# Altium integrated library Actel ProASIC3.IntLib: 427 symbols (part 7 of 68)
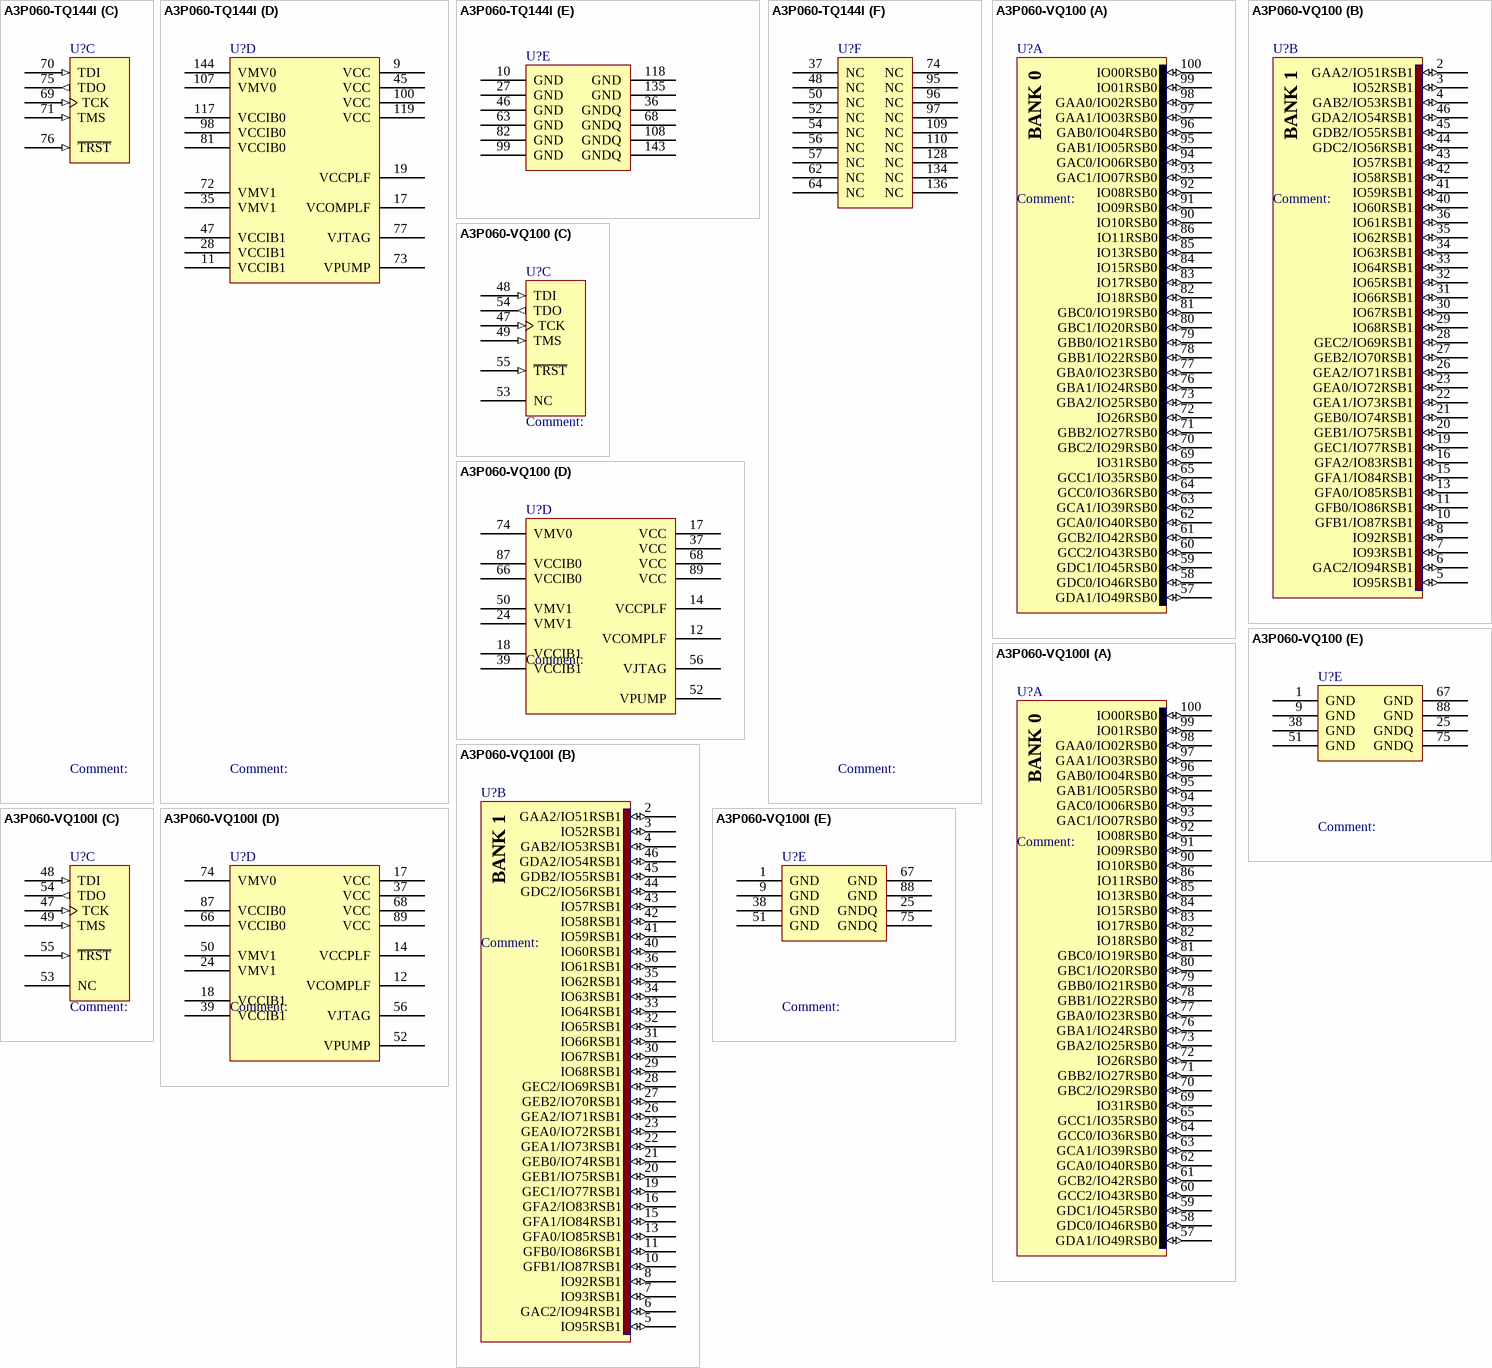
[diagram p304: symbols A3P060-TQ144I to A3P060-VQ100I]

## A3P060-TQ144I
designator U?
ProASIC3 Flash Family FPGA, 91 User IOs, 60K System Gates, 18 Kbits RAM, 1 Kbit Flash ROM, 1 PLL, 144-Pin TQFP, Industrial Grade; Published: 4-Mar-2005; LatestRevisionDate: 13-Apr-2006; LatestRevisionNote: IPC-7351 Footprint Added. Pinout changed to match DS ver 0.6.; DatasheetVersion: v1.1, Feb-2009; PackageVersion: v11.0, Feb-2009; PackageReference: TQ144; Publisher: Altium Limited; PackageDescription: 144-Pin Plastic Quad Flat Pack (TQ144); Code_JEDEC: MS-026-BFB; ComponentLink1Description: Manufacturer Link; ComponentLink1URL: http://www.actel.com/products/pa3/; ComponentLink2Description: Datasheet; ComponentLink2URL: http://www.actel.com/documents/PA3_DS.pdf; ComponentLink3Description: Packaging Specification; ComponentLink3URL: http://www.actel.com/documents/PckgMechDrwngs.pdf
footprint TQ144_N (Thin QFP, 144-Leads, Body 20x20mm, Pitch 0.5mm, IPC Medium Density)
footprint TQ144_L (Thin QFP, 144-Leads, Body 20x20mm, Pitch 0.5mm, IPC High Density)
footprint TQ144_M (Thin QFP, 144-Leads, Body 20x20mm, Pitch 0.5mm, IPC Low Density)
3D model A3P060-TQ144 (144-Pin Plastic Quad Flat Pack (TQ144))
signal-integrity model A3P060_TQ144 (ProASIC3)
part A pins: 78 GDA0/IO50RSB0 (io), 79 GDB0/IO48RSB0 (io), 80 GDB1/IO47RSB0 (io), 83 IO44RSB0 (io), 84 GCC2/IO43RSB0 (io), 85 GCB2/IO42RSB0 (io), 86 GCA2/IO41RSB0 (io), 87 GCA0/IO40RSB0 (io), 88 GCA1/IO39RSB0 (io), 89 GCB0/IO38RSB0 (io), 90 GCB1/IO37RSB0 (io), 91 GCC0/IO36RSB0 (io), 92 GCC1/IO35RSB0 (io), 93 IO34RSB0 (io), 94 IO33RSB0 (io), 101 IO30RSB0 (io), 102 GBC2/IO29RSB0 (io), 103 IO28RSB0 (io), 104 GBB2/IO27RSB0 (io), 105 IO26RSB0 (io), 106 GBA2/IO25RSB0 (io), 111 GBA1/IO24RSB0 (io), 112 GBA0/IO23RSB0 (io), 113 GBB1/IO22RSB0 (io), 114 GBB0/IO21RSB0 (io), 115 GBC1/IO20RSB0 (io), 116 GBC0/IO19RSB0 (io), 120 IO18RSB0 (io), 121 IO17RSB0 (io), 122 IO16RSB0 (io), 123 IO15RSB0 (io), 124 IO14RSB0 (io), 125 IO13RSB0 (io), 126 IO12RSB0 (io), 127 IO11RSB0 (io), 129 IO10RSB0 (io), 130 IO09RSB0 (io), 131 IO08RSB0 (io), 132 GAC1/IO07RSB0 (io), 133 GAC0/IO06RSB0 (io), 137 GAB1/IO05RSB0 (io), 138 GAB0/IO04RSB0 (io), 139 GAA1/IO03RSB0 (io), 140 GAA0/IO02RSB0 (io), 141 IO01RSB0 (io), 142 IO00RSB0 (io)
part B pins: 1 GAA2/IO51RSB1 (io), 2 IO52RSB1 (io), 3 GAB2/IO53RSB1 (io), 4 IO95RSB1 (io), 5 GAC2/IO94RSB1 (io), 6 IO93RSB1 (io), 7 IO92RSB1 (io), 8 IO91RSB1 (io), 12 IO90RSB1 (io), 13 GFC1/IO89RSB1 (io), 14 GFC0/IO88RSB1 (io), 15 GFB1/IO87RSB1 (io), 16 GFB0/IO86RSB1 (io), 18 GFA0/IO85RSB1 (io), 20 GFA1/IO84RSB1 (io), 21 GFA2/IO83RSB1 (io), 22 GFB2/IO82RSB1 (io), 23 GFC2/IO81RSB1 (io), 24 IO80RSB1 (io), 25 IO79RSB1 (io), 26 IO78RSB1 (io), 29 GEC1/IO77RSB1 (io), 30 GEC0/IO76RSB1 (io), 31 GEB1/IO75RSB1 (io), 32 GEB0/IO74RSB1 (io), 33 GEA1/IO73RSB1 (io), 34 GEA0/IO72RSB1 (io), 38 GEA2/IO71RSB1 (io), 39 GEB2/IO70RSB1 (io), 40 GEC2/IO69RSB1 (io), 41 IO68RSB1 (io), 42 IO67RSB1 (io), 43 IO66RSB1 (io), 44 IO65RSB1 (io), 49 IO64RSB1 (io), 51 IO63RSB1 (io), 53 IO62RSB1 (io), 55 IO61RSB1 (io), 58 IO60RSB1 (io), 59 IO59RSB1 (io), 60 IO58RSB1 (io), 61 IO57RSB1 (io), 65 GDC2/IO56RSB1 (io), 66 GDB2/IO55RSB1 (io), 67 GDA2/IO54RSB1 (io)
part C pins: 69 TCK (in), 70 TDI (in), 71 TMS (in), 75 TDO (out), 76 ~{TRST} (in)
part D pins: 9 VCC (power), 11 VCCIB1 (power), 17 VCOMPLF (power), 19 VCCPLF (power), 28 VCCIB1 (power), 35 VMV1 (power), 45 VCC (power), 47 VCCIB1 (power), 72 VMV1 (power), 73 VPUMP (power), 77 VJTAG (power), 81 VCCIB0 (power), 98 VCCIB0 (power), 100 VCC (power), 107 VMV0 (power), 117 VCCIB0 (power), 119 VCC (power), 144 VMV0 (power)
part E pins: 10 GND (power), 27 GND (power), 36 GNDQ (power), 46 GND (power), 63 GND (power), 68 GNDQ (power), 82 GND (power), 99 GND (power), 108 GNDQ (power), 118 GND (power), 135 GND (power), 143 GNDQ (power)
part F pins: 37 NC, 48 NC, 50 NC, 52 NC, 54 NC, 56 NC, 57 NC, 62 NC, 64 NC, 74 NC, 95 NC, 96 NC, 97 NC, 109 NC, 110 NC, 128 NC, 134 NC, 136 NC
part A text: BANK 0
part B text: BANK 1

## A3P060-VQ100
designator U?
ProASIC3 Flash Family FPGA, 71 User IOs, 60K System Gates, 18 Kbits RAM, 1 Kbit Flash ROM, 1 PLL, 100-Pin VQFP, Commercial Grade; Published: 4-Mar-2005; LatestRevisionDate: 13-Apr-2006; LatestRevisionNote: IPC-7351 Footprint Added. Pinout changed to match DS ver 0.6.; DatasheetVersion: v1.1, Feb-2009; PackageVersion: v11.0, Feb-2009; PackageReference: VQ100; Publisher: Altium Limited; PackageDescription: 100-Pin Plastic Quad Flat Pack (VQ100); Code_JEDEC: MS-026-AED; ComponentLink1Description: Manufacturer Link; ComponentLink1URL: http://www.actel.com/products/pa3/; ComponentLink2Description: Datasheet; ComponentLink2URL: http://www.actel.com/documents/PA3_DS.pdf; ComponentLink3Description: Packaging Specification; ComponentLink3URL: http://www.actel.com/documents/PckgMechDrwngs.pdf
footprint VQ100_N (Thin QFP, 100-Leads, Body 14x14mm, Pitch 0.5mm, IPC Medium Density)
footprint VQ100_L (Thin QFP, 100-Leads, Body 14x14mm, Pitch 0.5mm, IPC High Density)
footprint VQ100_M (Thin QFP, 100-Leads, Body 14x14mm, Pitch 0.5mm, IPC Low Density)
3D model A3P060-VQ100 (100-Pin Plastic Quad Flat Pack (VQ100))
signal-integrity model A3P060_VQ100 (ProASIC3)
part A pins: 57 GDA1/IO49RSB0 (io), 58 GDC0/IO46RSB0 (io), 59 GDC1/IO45RSB0 (io), 60 GCC2/IO43RSB0 (io), 61 GCB2/IO42RSB0 (io), 62 GCA0/IO40RSB0 (io), 63 GCA1/IO39RSB0 (io), 64 GCC0/IO36RSB0 (io), 65 GCC1/IO35RSB0 (io), 69 IO31RSB0 (io), 70 GBC2/IO29RSB0 (io), 71 GBB2/IO27RSB0 (io), 72 IO26RSB0 (io), 73 GBA2/IO25RSB0 (io), 76 GBA1/IO24RSB0 (io), 77 GBA0/IO23RSB0 (io), 78 GBB1/IO22RSB0 (io), 79 GBB0/IO21RSB0 (io), 80 GBC1/IO20RSB0 (io), 81 GBC0/IO19RSB0 (io), 82 IO18RSB0 (io), 83 IO17RSB0 (io), 84 IO15RSB0 (io), 85 IO13RSB0 (io), 86 IO11RSB0 (io), 90 IO10RSB0 (io), 91 IO09RSB0 (io), 92 IO08RSB0 (io), 93 GAC1/IO07RSB0 (io), 94 GAC0/IO06RSB0 (io), 95 GAB1/IO05RSB0 (io), 96 GAB0/IO04RSB0 (io), 97 GAA1/IO03RSB0 (io), 98 GAA0/IO02RSB0 (io), 99 IO01RSB0 (io), 100 IO00RSB0 (io)
part B pins: 2 GAA2/IO51RSB1 (io), 3 IO52RSB1 (io), 4 GAB2/IO53RSB1 (io), 5 IO95RSB1 (io), 6 GAC2/IO94RSB1 (io), 7 IO93RSB1 (io), 8 IO92RSB1 (io), 10 GFB1/IO87RSB1 (io), 11 GFB0/IO86RSB1 (io), 13 GFA0/IO85RSB1 (io), 15 GFA1/IO84RSB1 (io), 16 GFA2/IO83RSB1 (io), 19 GEC1/IO77RSB1 (io), 20 GEB1/IO75RSB1 (io), 21 GEB0/IO74RSB1 (io), 22 GEA1/IO73RSB1 (io), 23 GEA0/IO72RSB1 (io), 26 GEA2/IO71RSB1 (io), 27 GEB2/IO70RSB1 (io), 28 GEC2/IO69RSB1 (io), 29 IO68RSB1 (io), 30 IO67RSB1 (io), 31 IO66RSB1 (io), 32 IO65RSB1 (io), 33 IO64RSB1 (io), 34 IO63RSB1 (io), 35 IO62RSB1 (io), 36 IO61RSB1 (io), 40 IO60RSB1 (io), 41 IO59RSB1 (io), 42 IO58RSB1 (io), 43 IO57RSB1 (io), 44 GDC2/IO56RSB1 (io), 45 GDB2/IO55RSB1 (io), 46 GDA2/IO54RSB1 (io)
part C pins: 47 TCK (in), 48 TDI (in), 49 TMS (in), 53 NC, 54 TDO (out), 55 ~{TRST} (in)
part D pins: 12 VCOMPLF (power), 14 VCCPLF (power), 17 VCC (power), 18 VCCIB1 (power), 24 VMV1 (power), 37 VCC (power), 39 VCCIB1 (power), 50 VMV1, 52 VPUMP (power), 56 VJTAG (power), 66 VCCIB0 (power), 68 VCC (power), 74 VMV0 (power), 87 VCCIB0 (power), 89 VCC (power)
part E pins: 1 GND (power), 9 GND (power), 25 GNDQ (power), 38 GND (power), 51 GND (power), 67 GND (power), 75 GNDQ (power), 88 GND (power)
part A text: BANK 0
part B text: BANK 1

## A3P060-VQ100I
designator U?
ProASIC3 Flash Family FPGA, 71 User IOs, 60K System Gates, 18 Kbits RAM, 1 Kbit Flash ROM, 1 PLL, 100-Pin VQFP, Industrial Grade; Published: 4-Mar-2005; LatestRevisionDate: 13-Apr-2006; LatestRevisionNote: IPC-7351 Footprint Added. Pinout changed to match DS ver 0.6.; DatasheetVersion: v1.1, Feb-2009; PackageVersion: v11.0, Feb-2009; PackageReference: VQ100; Publisher: Altium Limited; PackageDescription: 100-Pin Plastic Quad Flat Pack (VQ100); Code_JEDEC: MS-026-AED; ComponentLink1Description: Manufacturer Link; ComponentLink1URL: http://www.actel.com/products/pa3/; ComponentLink2Description: Datasheet; ComponentLink2URL: http://www.actel.com/documents/PA3_DS.pdf; ComponentLink3Description: Packaging Specification; ComponentLink3URL: http://www.actel.com/documents/PckgMechDrwngs.pdf
footprint VQ100_N (Thin QFP, 100-Leads, Body 14x14mm, Pitch 0.5mm, IPC Medium Density)
footprint VQ100_L (Thin QFP, 100-Leads, Body 14x14mm, Pitch 0.5mm, IPC High Density)
footprint VQ100_M (Thin QFP, 100-Leads, Body 14x14mm, Pitch 0.5mm, IPC Low Density)
3D model A3P060-VQ100 (100-Pin Plastic Quad Flat Pack (VQ100))
signal-integrity model A3P060_VQ100 (ProASIC3)
part A pins: 57 GDA1/IO49RSB0 (io), 58 GDC0/IO46RSB0 (io), 59 GDC1/IO45RSB0 (io), 60 GCC2/IO43RSB0 (io), 61 GCB2/IO42RSB0 (io), 62 GCA0/IO40RSB0 (io), 63 GCA1/IO39RSB0 (io), 64 GCC0/IO36RSB0 (io), 65 GCC1/IO35RSB0 (io), 69 IO31RSB0 (io), 70 GBC2/IO29RSB0 (io), 71 GBB2/IO27RSB0 (io), 72 IO26RSB0 (io), 73 GBA2/IO25RSB0 (io), 76 GBA1/IO24RSB0 (io), 77 GBA0/IO23RSB0 (io), 78 GBB1/IO22RSB0 (io), 79 GBB0/IO21RSB0 (io), 80 GBC1/IO20RSB0 (io), 81 GBC0/IO19RSB0 (io), 82 IO18RSB0 (io), 83 IO17RSB0 (io), 84 IO15RSB0 (io), 85 IO13RSB0 (io), 86 IO11RSB0 (io), 90 IO10RSB0 (io), 91 IO09RSB0 (io), 92 IO08RSB0 (io), 93 GAC1/IO07RSB0 (io), 94 GAC0/IO06RSB0 (io), 95 GAB1/IO05RSB0 (io), 96 GAB0/IO04RSB0 (io), 97 GAA1/IO03RSB0 (io), 98 GAA0/IO02RSB0 (io), 99 IO01RSB0 (io), 100 IO00RSB0 (io)
part B pins: 2 GAA2/IO51RSB1 (io), 3 IO52RSB1 (io), 4 GAB2/IO53RSB1 (io), 5 IO95RSB1 (io), 6 GAC2/IO94RSB1 (io), 7 IO93RSB1 (io), 8 IO92RSB1 (io), 10 GFB1/IO87RSB1 (io), 11 GFB0/IO86RSB1 (io), 13 GFA0/IO85RSB1 (io), 15 GFA1/IO84RSB1 (io), 16 GFA2/IO83RSB1 (io), 19 GEC1/IO77RSB1 (io), 20 GEB1/IO75RSB1 (io), 21 GEB0/IO74RSB1 (io), 22 GEA1/IO73RSB1 (io), 23 GEA0/IO72RSB1 (io), 26 GEA2/IO71RSB1 (io), 27 GEB2/IO70RSB1 (io), 28 GEC2/IO69RSB1 (io), 29 IO68RSB1 (io), 30 IO67RSB1 (io), 31 IO66RSB1 (io), 32 IO65RSB1 (io), 33 IO64RSB1 (io), 34 IO63RSB1 (io), 35 IO62RSB1 (io), 36 IO61RSB1 (io), 40 IO60RSB1 (io), 41 IO59RSB1 (io), 42 IO58RSB1 (io), 43 IO57RSB1 (io), 44 GDC2/IO56RSB1 (io), 45 GDB2/IO55RSB1 (io), 46 GDA2/IO54RSB1 (io)
part C pins: 47 TCK (in), 48 TDI (in), 49 TMS (in), 53 NC, 54 TDO (out), 55 ~{TRST} (in)
part D pins: 12 VCOMPLF (power), 14 VCCPLF (power), 17 VCC (power), 18 VCCIB1 (power), 24 VMV1 (power), 37 VCC (power), 39 VCCIB1 (power), 50 VMV1, 52 VPUMP (power), 56 VJTAG (power), 66 VCCIB0 (power), 68 VCC (power), 74 VMV0 (power), 87 VCCIB0 (power), 89 VCC (power)
part E pins: 1 GND (power), 9 GND (power), 25 GNDQ (power), 38 GND (power), 51 GND (power), 67 GND (power), 75 GNDQ (power), 88 GND (power)
part A text: BANK 0
part B text: BANK 1

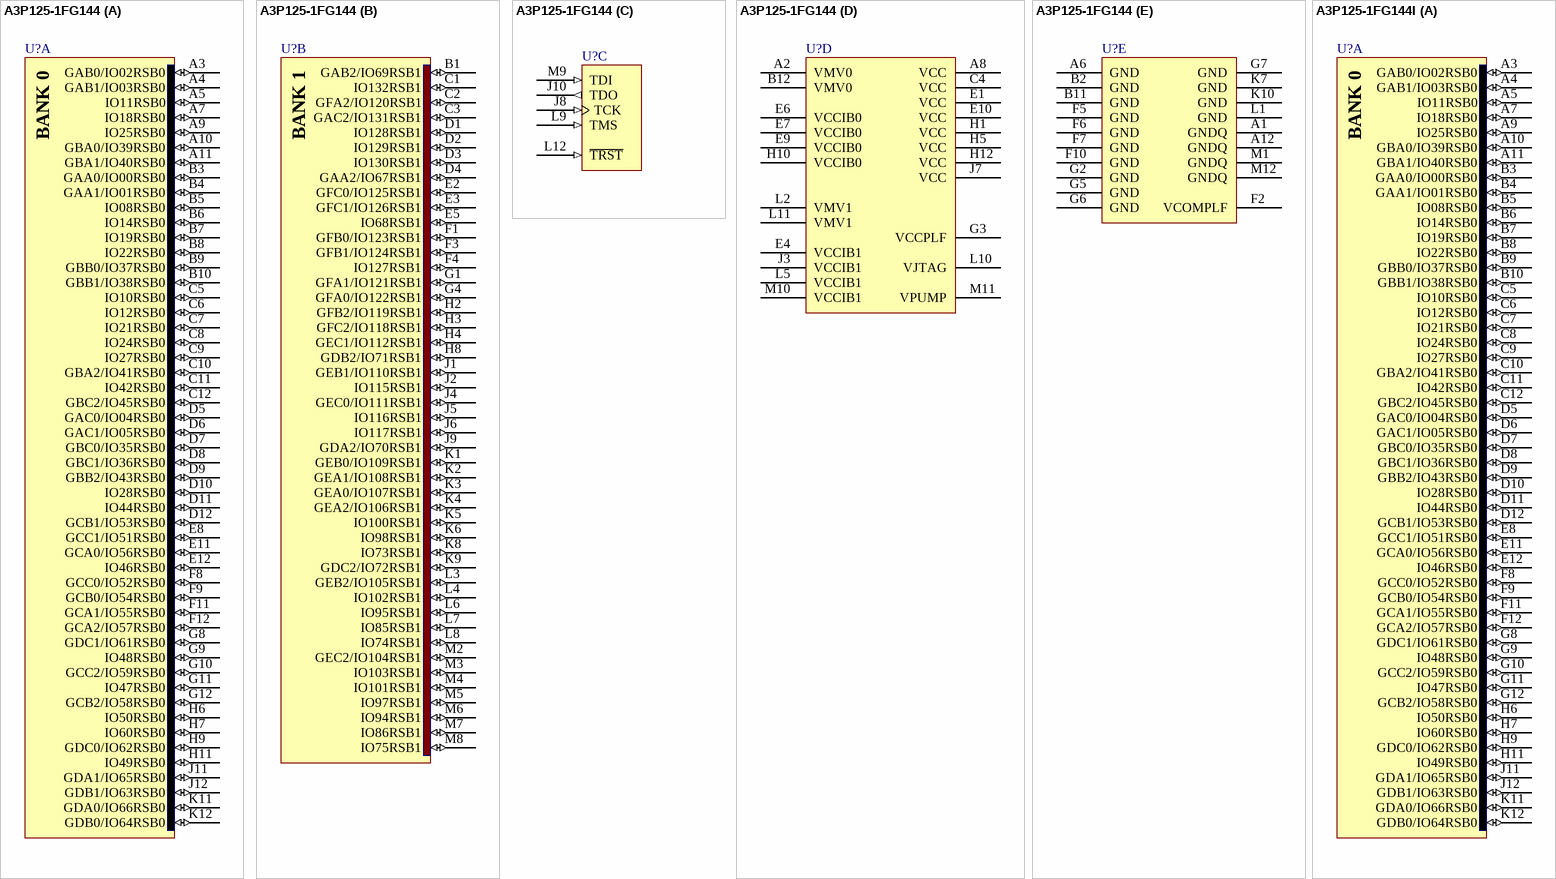
[diagram p28: symbols A3P125-1FG144 to A3P125-1FG144I]

## A3P125-1FG144
designator U?
ProASIC3 Flash Family FPGA, 97 User IOs, 125K System Gates, 36 Kbits RAM, 1 Kbit Flash ROM, 1 PLL, 144-Ball FBGA, Commercial Grade; Published: 13-Apr-2006; DatasheetVersion: v1.1, Feb-2009; PackageVersion: v11.0, Feb-2009; PackageReference: FG144; Publisher: Altium Limited; PackageDescription: 144-Ball Fine Pitch Plastic Ball Grid Array (FG144); Code_JEDEC: MO-192-DAD-1; ComponentLink1Description: Manufacturer Link; ComponentLink1URL: http://www.actel.com/products/pa3/; ComponentLink2Description: Datasheet; ComponentLink2URL: http://www.actel.com/documents/PA3_DS.pdf; ComponentLink3Description: Packaging Specification; ComponentLink3URL: http://www.actel.com/documents/PckgMechDrwngs.pdf
footprint FG144 (BGA, 144-Leads, Body 13x13mm, Pitch 1mm)
3D model A3P125-FG144 (144-Ball Fine Pitch Plastic Ball Grid Array (FG144))
signal-integrity model A3P125_FG144 (ProASIC3)
part A pins: A3 GAB0/IO02RSB0 (io), A4 GAB1/IO03RSB0 (io), A5 IO11RSB0 (io), A7 IO18RSB0 (io), A9 IO25RSB0 (io), A10 GBA0/IO39RSB0 (io), A11 GBA1/IO40RSB0 (io), B3 GAA0/IO00RSB0 (io), B4 GAA1/IO01RSB0 (io), B5 IO08RSB0 (io), B6 IO14RSB0 (io), B7 IO19RSB0 (io), B8 IO22RSB0 (io), B9 GBB0/IO37RSB0 (io), B10 GBB1/IO38RSB0 (io), C5 IO10RSB0 (io), C6 IO12RSB0 (io), C7 IO21RSB0 (io), C8 IO24RSB0 (io), C9 IO27RSB0 (io), C10 GBA2/IO41RSB0 (io), C11 IO42RSB0 (io), C12 GBC2/IO45RSB0 (io), D5 GAC0/IO04RSB0 (io), D6 GAC1/IO05RSB0 (io), D7 GBC0/IO35RSB0 (io), D8 GBC1/IO36RSB0 (io), D9 GBB2/IO43RSB0 (io), D10 IO28RSB0 (io), D11 IO44RSB0 (io), D12 GCB1/IO53RSB0 (io), E8 GCC1/IO51RSB0 (io), E11 GCA0/IO56RSB0 (io), E12 IO46RSB0 (io), F8 GCC0/IO52RSB0 (io), F9 GCB0/IO54RSB0 (io), F11 GCA1/IO55RSB0 (io), F12 GCA2/IO57RSB0 (io), G8 GDC1/IO61RSB0 (io), G9 IO48RSB0 (io), G10 GCC2/IO59RSB0 (io), G11 IO47RSB0 (io), G12 GCB2/IO58RSB0 (io), H6 IO50RSB0 (io), H7 IO60RSB0 (io), H9 GDC0/IO62RSB0 (io), H11 IO49RSB0 (io), J11 GDA1/IO65RSB0 (io), J12 GDB1/IO63RSB0 (io), K11 GDA0/IO66RSB0 (io), K12 GDB0/IO64RSB0 (io)
part B pins: B1 GAB2/IO69RSB1 (io), C1 IO132RSB1 (io), C2 GFA2/IO120RSB1 (io), C3 GAC2/IO131RSB1 (io), D1 IO128RSB1 (io), D2 IO129RSB1 (io), D3 IO130RSB1 (io), D4 GAA2/IO67RSB1 (io), E2 GFC0/IO125RSB1 (io), E3 GFC1/IO126RSB1 (io), E5 IO68RSB1 (io), F1 GFB0/IO123RSB1 (io), F3 GFB1/IO124RSB1 (io), F4 IO127RSB1 (io), G1 GFA1/IO121RSB1 (io), G4 GFA0/IO122RSB1 (io), H2 GFB2/IO119RSB1 (io), H3 GFC2/IO118RSB1 (io), H4 GEC1/IO112RSB1 (io), H8 GDB2/IO71RSB1 (io), J1 GEB1/IO110RSB1 (io), J2 IO115RSB1 (io), J4 GEC0/IO111RSB1 (io), J5 IO116RSB1 (io), J6 IO117RSB1 (io), J9 GDA2/IO70RSB1 (io), K1 GEB0/IO109RSB1 (io), K2 GEA1/IO108RSB1 (io), K3 GEA0/IO107RSB1 (io), K4 GEA2/IO106RSB1 (io), K5 IO100RSB1 (io), K6 IO98RSB1 (io), K8 IO73RSB1 (io), K9 GDC2/IO72RSB1 (io), L3 GEB2/IO105RSB1 (io), L4 IO102RSB1 (io), L6 IO95RSB1 (io), L7 IO85RSB1 (io), L8 IO74RSB1 (io), M2 GEC2/IO104RSB1 (io), M3 IO103RSB1 (io), M4 IO101RSB1 (io), M5 IO97RSB1 (io), M6 IO94RSB1 (io), M7 IO86RSB1 (io), M8 IO75RSB1 (io)
part C pins: J8 TCK (in), J10 TDO (out), L9 TMS (in), L12 ~{TRST} (in), M9 TDI (in)
part D pins: A2 VMV0 (power), A8 VCC (power), B12 VMV0 (power), C4 VCC (power), E1 VCC (power), E4 VCCIB1 (power), E6 VCCIB0 (power), E7 VCCIB0 (power), E9 VCCIB0 (power), E10 VCC (power), G3 VCCPLF (power), H1 VCC (power), H5 VCC (power), H10 VCCIB0 (power), H12 VCC (power), J3 VCCIB1 (power), J7 VCC (power), L2 VMV1 (power), L5 VCCIB1 (power), L10 VJTAG (power), L11 VMV1 (power), M10 VCCIB1 (power), M11 VPUMP (power)
part E pins: A1 GNDQ (power), A6 GND (power), A12 GNDQ (power), B2 GND (power), B11 GND (power), F2 VCOMPLF (power), F5 GND (power), F6 GND (power), F7 GND (power), F10 GND (power), G2 GND (power), G5 GND (power), G6 GND (power), G7 GND (power), K7 GND (power), K10 GND (power), L1 GND (power), M1 GNDQ (power), M12 GNDQ (power)
part A text: BANK 0
part B text: BANK 1

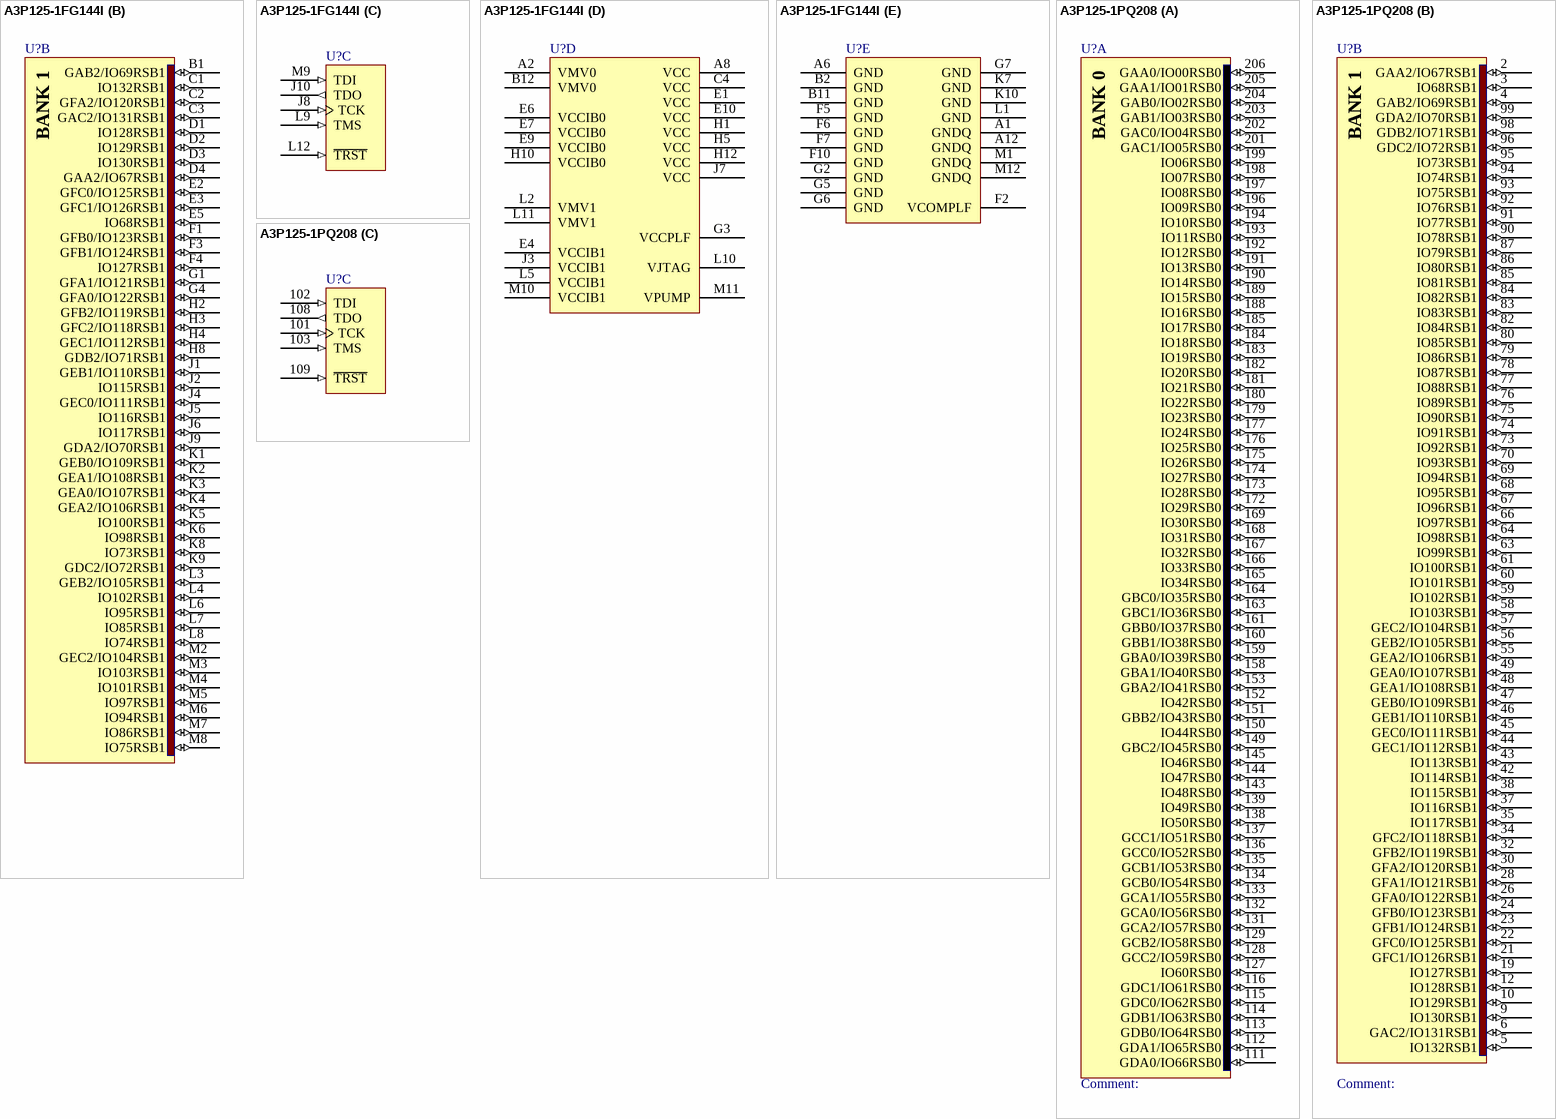
[diagram p29: symbols A3P125-1FG144I to A3P125-1PQ208]

## A3P125-1FG144I
designator U?
ProASIC3 Flash Family FPGA, 97 User IOs, 125K System Gates, 36 Kbits RAM, 1 Kbit Flash ROM, 1 PLL, 144-Ball FBGA, Industrial Grade; Published: 13-Apr-2006; DatasheetVersion: v1.1, Feb-2009; PackageVersion: v11.0, Feb-2009; PackageReference: FG144; Publisher: Altium Limited; PackageDescription: 144-Ball Fine Pitch Plastic Ball Grid Array (FG144); Code_JEDEC: MO-192-DAD-1; ComponentLink1Description: Manufacturer Link; ComponentLink1URL: http://www.actel.com/products/pa3/; ComponentLink2Description: Datasheet; ComponentLink2URL: http://www.actel.com/documents/PA3_DS.pdf; ComponentLink3Description: Packaging Specification; ComponentLink3URL: http://www.actel.com/documents/PckgMechDrwngs.pdf
footprint FG144 (BGA, 144-Leads, Body 13x13mm, Pitch 1mm)
3D model A3P125-FG144 (144-Ball Fine Pitch Plastic Ball Grid Array (FG144))
signal-integrity model A3P125_FG144 (ProASIC3)
part A pins: A3 GAB0/IO02RSB0 (io), A4 GAB1/IO03RSB0 (io), A5 IO11RSB0 (io), A7 IO18RSB0 (io), A9 IO25RSB0 (io), A10 GBA0/IO39RSB0 (io), A11 GBA1/IO40RSB0 (io), B3 GAA0/IO00RSB0 (io), B4 GAA1/IO01RSB0 (io), B5 IO08RSB0 (io), B6 IO14RSB0 (io), B7 IO19RSB0 (io), B8 IO22RSB0 (io), B9 GBB0/IO37RSB0 (io), B10 GBB1/IO38RSB0 (io), C5 IO10RSB0 (io), C6 IO12RSB0 (io), C7 IO21RSB0 (io), C8 IO24RSB0 (io), C9 IO27RSB0 (io), C10 GBA2/IO41RSB0 (io), C11 IO42RSB0 (io), C12 GBC2/IO45RSB0 (io), D5 GAC0/IO04RSB0 (io), D6 GAC1/IO05RSB0 (io), D7 GBC0/IO35RSB0 (io), D8 GBC1/IO36RSB0 (io), D9 GBB2/IO43RSB0 (io), D10 IO28RSB0 (io), D11 IO44RSB0 (io), D12 GCB1/IO53RSB0 (io), E8 GCC1/IO51RSB0 (io), E11 GCA0/IO56RSB0 (io), E12 IO46RSB0 (io), F8 GCC0/IO52RSB0 (io), F9 GCB0/IO54RSB0 (io), F11 GCA1/IO55RSB0 (io), F12 GCA2/IO57RSB0 (io), G8 GDC1/IO61RSB0 (io), G9 IO48RSB0 (io), G10 GCC2/IO59RSB0 (io), G11 IO47RSB0 (io), G12 GCB2/IO58RSB0 (io), H6 IO50RSB0 (io), H7 IO60RSB0 (io), H9 GDC0/IO62RSB0 (io), H11 IO49RSB0 (io), J11 GDA1/IO65RSB0 (io), J12 GDB1/IO63RSB0 (io), K11 GDA0/IO66RSB0 (io), K12 GDB0/IO64RSB0 (io)
part B pins: B1 GAB2/IO69RSB1 (io), C1 IO132RSB1 (io), C2 GFA2/IO120RSB1 (io), C3 GAC2/IO131RSB1 (io), D1 IO128RSB1 (io), D2 IO129RSB1 (io), D3 IO130RSB1 (io), D4 GAA2/IO67RSB1 (io), E2 GFC0/IO125RSB1 (io), E3 GFC1/IO126RSB1 (io), E5 IO68RSB1 (io), F1 GFB0/IO123RSB1 (io), F3 GFB1/IO124RSB1 (io), F4 IO127RSB1 (io), G1 GFA1/IO121RSB1 (io), G4 GFA0/IO122RSB1 (io), H2 GFB2/IO119RSB1 (io), H3 GFC2/IO118RSB1 (io), H4 GEC1/IO112RSB1 (io), H8 GDB2/IO71RSB1 (io), J1 GEB1/IO110RSB1 (io), J2 IO115RSB1 (io), J4 GEC0/IO111RSB1 (io), J5 IO116RSB1 (io), J6 IO117RSB1 (io), J9 GDA2/IO70RSB1 (io), K1 GEB0/IO109RSB1 (io), K2 GEA1/IO108RSB1 (io), K3 GEA0/IO107RSB1 (io), K4 GEA2/IO106RSB1 (io), K5 IO100RSB1 (io), K6 IO98RSB1 (io), K8 IO73RSB1 (io), K9 GDC2/IO72RSB1 (io), L3 GEB2/IO105RSB1 (io), L4 IO102RSB1 (io), L6 IO95RSB1 (io), L7 IO85RSB1 (io), L8 IO74RSB1 (io), M2 GEC2/IO104RSB1 (io), M3 IO103RSB1 (io), M4 IO101RSB1 (io), M5 IO97RSB1 (io), M6 IO94RSB1 (io), M7 IO86RSB1 (io), M8 IO75RSB1 (io)
part C pins: J8 TCK (in), J10 TDO (out), L9 TMS (in), L12 ~{TRST} (in), M9 TDI (in)
part D pins: A2 VMV0 (power), A8 VCC (power), B12 VMV0 (power), C4 VCC (power), E1 VCC (power), E4 VCCIB1 (power), E6 VCCIB0 (power), E7 VCCIB0 (power), E9 VCCIB0 (power), E10 VCC (power), G3 VCCPLF (power), H1 VCC (power), H5 VCC (power), H10 VCCIB0 (power), H12 VCC (power), J3 VCCIB1 (power), J7 VCC (power), L2 VMV1 (power), L5 VCCIB1 (power), L10 VJTAG (power), L11 VMV1 (power), M10 VCCIB1 (power), M11 VPUMP (power)
part E pins: A1 GNDQ (power), A6 GND (power), A12 GNDQ (power), B2 GND (power), B11 GND (power), F2 VCOMPLF (power), F5 GND (power), F6 GND (power), F7 GND (power), F10 GND (power), G2 GND (power), G5 GND (power), G6 GND (power), G7 GND (power), K7 GND (power), K10 GND (power), L1 GND (power), M1 GNDQ (power), M12 GNDQ (power)
part A text: BANK 0
part B text: BANK 1

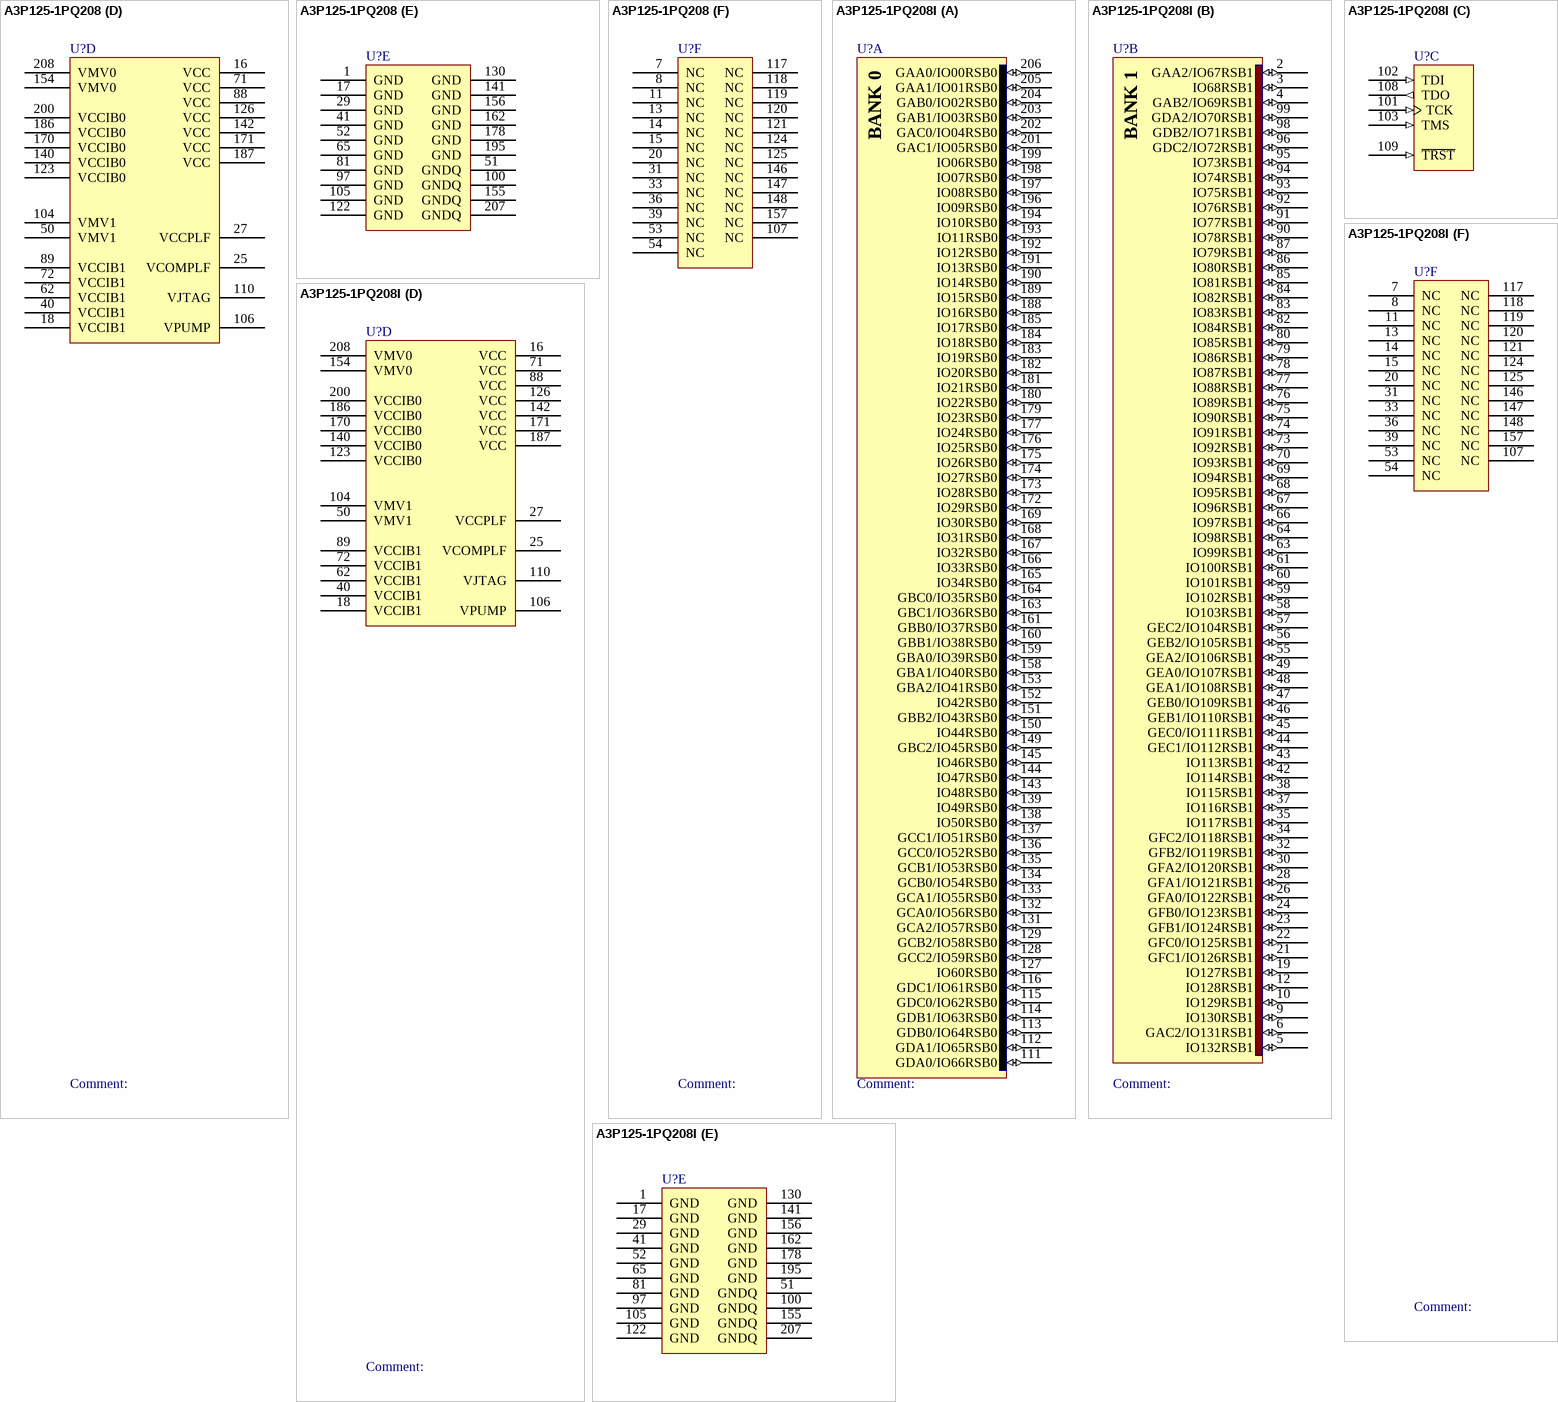
[diagram p30: symbols A3P125-1PQ208 to A3P125-1PQ208I]

## A3P125-1PQ208
designator U?
ProASIC3 Flash Family FPGA, 133 User IOs, 125K System Gates, 36 Kbits RAM, 1 Kbit Flash ROM, 1 PLL, 208-Pin PQFP, Commercial Grade; Published: 4-Mar-2005; LatestRevisionDate: 13-Apr-2006; LatestRevisionNote: IPC-7351 Footprint Added.; DatasheetVersion: v1.1, Feb-2009; PackageVersion: v11.0, Feb-2009; PackageReference: PQ208; Publisher: Altium Limited; PackageDescription: 208-Pin Plastic Quad Flat Pack (PQ208); Code_JEDEC: MS-029-FA-1; ComponentLink1Description: Manufacturer Link; ComponentLink1URL: http://www.actel.com/products/pa3/; ComponentLink2Description: Datasheet; ComponentLink2URL: http://www.actel.com/documents/PA3_DS.pdf; ComponentLink3Description: Packaging Specification; ComponentLink3URL: http://www.actel.com/documents/PckgMechDrwngs.pdf
footprint PQ208_N (Shrink QFP, 208-Leads, Body 28x28mm, Pitch 0.5mm, IPC Medium Density)
footprint PQ208_L (Shrink QFP, 208-Leads, Body 28x28mm, Pitch 0.5mm, IPC High Density)
footprint PQ208_M (Shrink QFP, 208-Leads, Body 28x28mm, Pitch 0.5mm, IPC Low Density)
3D model A3P125-PQ208 (208-Pin Plastic Quad Flat Pack (PQ208))
signal-integrity model A3P125_PQ208 (ProASIC3)
part A pins: 111 GDA0/IO66RSB0 (io), 112 GDA1/IO65RSB0 (io), 113 GDB0/IO64RSB0 (io), 114 GDB1/IO63RSB0 (io), 115 GDC0/IO62RSB0 (io), 116 GDC1/IO61RSB0 (io), 127 IO60RSB0 (io), 128 GCC2/IO59RSB0 (io), 129 GCB2/IO58RSB0 (io), 131 GCA2/IO57RSB0 (io), 132 GCA0/IO56RSB0 (io), 133 GCA1/IO55RSB0 (io), 134 GCB0/IO54RSB0 (io), 135 GCB1/IO53RSB0 (io), 136 GCC0/IO52RSB0 (io), 137 GCC1/IO51RSB0 (io), 138 IO50RSB0 (io), 139 IO49RSB0 (io), 143 IO48RSB0 (io), 144 IO47RSB0 (io), 145 IO46RSB0 (io), 149 GBC2/IO45RSB0 (io), 150 IO44RSB0 (io), 151 GBB2/IO43RSB0 (io), 152 IO42RSB0 (io), 153 GBA2/IO41RSB0 (io), 158 GBA1/IO40RSB0 (io), 159 GBA0/IO39RSB0 (io), 160 GBB1/IO38RSB0 (io), 161 GBB0/IO37RSB0 (io), 163 GBC1/IO36RSB0 (io), 164 GBC0/IO35RSB0 (io), 165 IO34RSB0 (io), 166 IO33RSB0 (io), 167 IO32RSB0 (io), 168 IO31RSB0 (io), 169 IO30RSB0 (io), 172 IO29RSB0 (io), 173 IO28RSB0 (io), 174 IO27RSB0 (io), 175 IO26RSB0 (io), 176 IO25RSB0 (io), 177 IO24RSB0 (io), 179 IO23RSB0 (io), 180 IO22RSB0 (io), 181 IO21RSB0 (io), 182 IO20RSB0 (io), 183 IO19RSB0 (io), 184 IO18RSB0 (io), 185 IO17RSB0 (io), 188 IO16RSB0 (io), 189 IO15RSB0 (io), 190 IO14RSB0 (io), 191 IO13RSB0 (io), 192 IO12RSB0 (io), 193 IO11RSB0 (io), 194 IO10RSB0 (io), 196 IO09RSB0 (io), 197 IO08RSB0 (io), 198 IO07RSB0 (io), 199 IO06RSB0 (io), 201 GAC1/IO05RSB0 (io), 202 GAC0/IO04RSB0 (io), 203 GAB1/IO03RSB0 (io), 204 GAB0/IO02RSB0 (io), 205 GAA1/IO01RSB0 (io), 206 GAA0/IO00RSB0 (io)
part B pins: 2 GAA2/IO67RSB1 (io), 3 IO68RSB1 (io), 4 GAB2/IO69RSB1 (io), 5 IO132RSB1 (io), 6 GAC2/IO131RSB1 (io), 9 IO130RSB1 (io), 10 IO129RSB1 (io), 12 IO128RSB1 (io), 19 IO127RSB1 (io), 21 GFC1/IO126RSB1 (io), 22 GFC0/IO125RSB1 (io), 23 GFB1/IO124RSB1 (io), 24 GFB0/IO123RSB1 (io), 26 GFA0/IO122RSB1 (io), 28 GFA1/IO121RSB1 (io), 30 GFA2/IO120RSB1 (io), 32 GFB2/IO119RSB1 (io), 34 GFC2/IO118RSB1 (io), 35 IO117RSB1 (io), 37 IO116RSB1 (io), 38 IO115RSB1 (io), 42 IO114RSB1 (io), 43 IO113RSB1 (io), 44 GEC1/IO112RSB1 (io), 45 GEC0/IO111RSB1 (io), 46 GEB1/IO110RSB1 (io), 47 GEB0/IO109RSB1 (io), 48 GEA1/IO108RSB1 (io), 49 GEA0/IO107RSB1 (io), 55 GEA2/IO106RSB1 (io), 56 GEB2/IO105RSB1 (io), 57 GEC2/IO104RSB1 (io), 58 IO103RSB1 (io), 59 IO102RSB1 (io), 60 IO101RSB1 (io), 61 IO100RSB1 (io), 63 IO99RSB1 (io), 64 IO98RSB1 (io), 66 IO97RSB1 (io), 67 IO96RSB1 (io), 68 IO95RSB1 (io), 69 IO94RSB1 (io), 70 IO93RSB1 (io), 73 IO92RSB1 (io), 74 IO91RSB1 (io), 75 IO90RSB1 (io), 76 IO89RSB1 (io), 77 IO88RSB1 (io), 78 IO87RSB1 (io), 79 IO86RSB1 (io), 80 IO85RSB1 (io), 82 IO84RSB1 (io), 83 IO83RSB1 (io), 84 IO82RSB1 (io), 85 IO81RSB1 (io), 86 IO80RSB1 (io), 87 IO79RSB1 (io), 90 IO78RSB1 (io), 91 IO77RSB1 (io), 92 IO76RSB1 (io), 93 IO75RSB1 (io), 94 IO74RSB1 (io), 95 IO73RSB1 (io), 96 GDC2/IO72RSB1 (io), 98 GDB2/IO71RSB1 (io), 99 GDA2/IO70RSB1 (io)
part C pins: 101 TCK (in), 102 TDI (in), 103 TMS (in), 108 TDO (out), 109 ~{TRST} (in)
part D pins: 16 VCC (power), 18 VCCIB1 (power), 25 VCOMPLF (power), 27 VCCPLF (power), 40 VCCIB1 (power), 50 VMV1 (power), 62 VCCIB1 (power), 71 VCC (power), 72 VCCIB1 (power), 88 VCC (power), 89 VCCIB1 (power), 104 VMV1 (power), 106 VPUMP (power), 110 VJTAG (power), 123 VCCIB0 (power), 126 VCC (power), 140 VCCIB0 (power), 142 VCC (power), 154 VMV0 (power), 170 VCCIB0 (power), 171 VCC (power), 186 VCCIB0 (power), 187 VCC (power), 200 VCCIB0 (power), 208 VMV0 (power)
part E pins: 1 GND (power), 17 GND (power), 29 GND (power), 41 GND (power), 51 GNDQ (power), 52 GND (power), 65 GND (power), 81 GND (power), 97 GND (power), 100 GNDQ (power), 105 GND (power), 122 GND (power), 130 GND (power), 141 GND (power), 155 GNDQ (power), 156 GND (power), 162 GND (power), 178 GND (power), 195 GND (power), 207 GNDQ (power)
part F pins: 7 NC, 8 NC, 11 NC, 13 NC, 14 NC, 15 NC, 20 NC, 31 NC, 33 NC, 36 NC, 39 NC, 53 NC, 54 NC, 107 NC, 117 NC, 118 NC, 119 NC, 120 NC, 121 NC, 124 NC, 125 NC, 146 NC, 147 NC, 148 NC, 157 NC
part A text: BANK 0
part B text: BANK 1

## A3P125-1PQ208I
designator U?
ProASIC3 Flash Family FPGA, 133 User IOs, 125K System Gates, 36 Kbits RAM, 1 Kbit Flash ROM, 1 PLL, 208-Pin PQFP, Industrial Grade; Published: 4-Mar-2005; LatestRevisionDate: 13-Apr-2006; LatestRevisionNote: IPC-7351 Footprint Added.; DatasheetVersion: v1.1, Feb-2009; PackageVersion: v11.0, Feb-2009; PackageReference: PQ208; Publisher: Altium Limited; PackageDescription: 208-Pin Plastic Quad Flat Pack (PQ208); Code_JEDEC: MS-029-FA-1; ComponentLink1Description: Manufacturer Link; ComponentLink1URL: http://www.actel.com/products/pa3/; ComponentLink2Description: Datasheet; ComponentLink2URL: http://www.actel.com/documents/PA3_DS.pdf; ComponentLink3Description: Packaging Specification; ComponentLink3URL: http://www.actel.com/documents/PckgMechDrwngs.pdf
footprint PQ208_N (Shrink QFP, 208-Leads, Body 28x28mm, Pitch 0.5mm, IPC Medium Density)
footprint PQ208_L (Shrink QFP, 208-Leads, Body 28x28mm, Pitch 0.5mm, IPC High Density)
footprint PQ208_M (Shrink QFP, 208-Leads, Body 28x28mm, Pitch 0.5mm, IPC Low Density)
3D model A3P125-PQ208 (208-Pin Plastic Quad Flat Pack (PQ208))
signal-integrity model A3P125_PQ208 (ProASIC3)
part A pins: 111 GDA0/IO66RSB0 (io), 112 GDA1/IO65RSB0 (io), 113 GDB0/IO64RSB0 (io), 114 GDB1/IO63RSB0 (io), 115 GDC0/IO62RSB0 (io), 116 GDC1/IO61RSB0 (io), 127 IO60RSB0 (io), 128 GCC2/IO59RSB0 (io), 129 GCB2/IO58RSB0 (io), 131 GCA2/IO57RSB0 (io), 132 GCA0/IO56RSB0 (io), 133 GCA1/IO55RSB0 (io), 134 GCB0/IO54RSB0 (io), 135 GCB1/IO53RSB0 (io), 136 GCC0/IO52RSB0 (io), 137 GCC1/IO51RSB0 (io), 138 IO50RSB0 (io), 139 IO49RSB0 (io), 143 IO48RSB0 (io), 144 IO47RSB0 (io), 145 IO46RSB0 (io), 149 GBC2/IO45RSB0 (io), 150 IO44RSB0 (io), 151 GBB2/IO43RSB0 (io), 152 IO42RSB0 (io), 153 GBA2/IO41RSB0 (io), 158 GBA1/IO40RSB0 (io), 159 GBA0/IO39RSB0 (io), 160 GBB1/IO38RSB0 (io), 161 GBB0/IO37RSB0 (io), 163 GBC1/IO36RSB0 (io), 164 GBC0/IO35RSB0 (io), 165 IO34RSB0 (io), 166 IO33RSB0 (io), 167 IO32RSB0 (io), 168 IO31RSB0 (io), 169 IO30RSB0 (io), 172 IO29RSB0 (io), 173 IO28RSB0 (io), 174 IO27RSB0 (io), 175 IO26RSB0 (io), 176 IO25RSB0 (io), 177 IO24RSB0 (io), 179 IO23RSB0 (io), 180 IO22RSB0 (io), 181 IO21RSB0 (io), 182 IO20RSB0 (io), 183 IO19RSB0 (io), 184 IO18RSB0 (io), 185 IO17RSB0 (io), 188 IO16RSB0 (io), 189 IO15RSB0 (io), 190 IO14RSB0 (io), 191 IO13RSB0 (io), 192 IO12RSB0 (io), 193 IO11RSB0 (io), 194 IO10RSB0 (io), 196 IO09RSB0 (io), 197 IO08RSB0 (io), 198 IO07RSB0 (io), 199 IO06RSB0 (io), 201 GAC1/IO05RSB0 (io), 202 GAC0/IO04RSB0 (io), 203 GAB1/IO03RSB0 (io), 204 GAB0/IO02RSB0 (io), 205 GAA1/IO01RSB0 (io), 206 GAA0/IO00RSB0 (io)
part B pins: 2 GAA2/IO67RSB1 (io), 3 IO68RSB1 (io), 4 GAB2/IO69RSB1 (io), 5 IO132RSB1 (io), 6 GAC2/IO131RSB1 (io), 9 IO130RSB1 (io), 10 IO129RSB1 (io), 12 IO128RSB1 (io), 19 IO127RSB1 (io), 21 GFC1/IO126RSB1 (io), 22 GFC0/IO125RSB1 (io), 23 GFB1/IO124RSB1 (io), 24 GFB0/IO123RSB1 (io), 26 GFA0/IO122RSB1 (io), 28 GFA1/IO121RSB1 (io), 30 GFA2/IO120RSB1 (io), 32 GFB2/IO119RSB1 (io), 34 GFC2/IO118RSB1 (io), 35 IO117RSB1 (io), 37 IO116RSB1 (io), 38 IO115RSB1 (io), 42 IO114RSB1 (io), 43 IO113RSB1 (io), 44 GEC1/IO112RSB1 (io), 45 GEC0/IO111RSB1 (io), 46 GEB1/IO110RSB1 (io), 47 GEB0/IO109RSB1 (io), 48 GEA1/IO108RSB1 (io), 49 GEA0/IO107RSB1 (io), 55 GEA2/IO106RSB1 (io), 56 GEB2/IO105RSB1 (io), 57 GEC2/IO104RSB1 (io), 58 IO103RSB1 (io), 59 IO102RSB1 (io), 60 IO101RSB1 (io), 61 IO100RSB1 (io), 63 IO99RSB1 (io), 64 IO98RSB1 (io), 66 IO97RSB1 (io), 67 IO96RSB1 (io), 68 IO95RSB1 (io), 69 IO94RSB1 (io), 70 IO93RSB1 (io), 73 IO92RSB1 (io), 74 IO91RSB1 (io), 75 IO90RSB1 (io), 76 IO89RSB1 (io), 77 IO88RSB1 (io), 78 IO87RSB1 (io), 79 IO86RSB1 (io), 80 IO85RSB1 (io), 82 IO84RSB1 (io), 83 IO83RSB1 (io), 84 IO82RSB1 (io), 85 IO81RSB1 (io), 86 IO80RSB1 (io), 87 IO79RSB1 (io), 90 IO78RSB1 (io), 91 IO77RSB1 (io), 92 IO76RSB1 (io), 93 IO75RSB1 (io), 94 IO74RSB1 (io), 95 IO73RSB1 (io), 96 GDC2/IO72RSB1 (io), 98 GDB2/IO71RSB1 (io), 99 GDA2/IO70RSB1 (io)
part C pins: 101 TCK (in), 102 TDI (in), 103 TMS (in), 108 TDO (out), 109 ~{TRST} (in)
part D pins: 16 VCC (power), 18 VCCIB1 (power), 25 VCOMPLF (power), 27 VCCPLF (power), 40 VCCIB1 (power), 50 VMV1 (power), 62 VCCIB1 (power), 71 VCC (power), 72 VCCIB1 (power), 88 VCC (power), 89 VCCIB1 (power), 104 VMV1 (power), 106 VPUMP (power), 110 VJTAG (power), 123 VCCIB0 (power), 126 VCC (power), 140 VCCIB0 (power), 142 VCC (power), 154 VMV0 (power), 170 VCCIB0 (power), 171 VCC (power), 186 VCCIB0 (power), 187 VCC (power), 200 VCCIB0 (power), 208 VMV0 (power)
part E pins: 1 GND (power), 17 GND (power), 29 GND (power), 41 GND (power), 51 GNDQ (power), 52 GND (power), 65 GND (power), 81 GND (power), 97 GND (power), 100 GNDQ (power), 105 GND (power), 122 GND (power), 130 GND (power), 141 GND (power), 155 GNDQ (power), 156 GND (power), 162 GND (power), 178 GND (power), 195 GND (power), 207 GNDQ (power)
part F pins: 7 NC, 8 NC, 11 NC, 13 NC, 14 NC, 15 NC, 20 NC, 31 NC, 33 NC, 36 NC, 39 NC, 53 NC, 54 NC, 107 NC, 117 NC, 118 NC, 119 NC, 120 NC, 121 NC, 124 NC, 125 NC, 146 NC, 147 NC, 148 NC, 157 NC
part A text: BANK 0
part B text: BANK 1

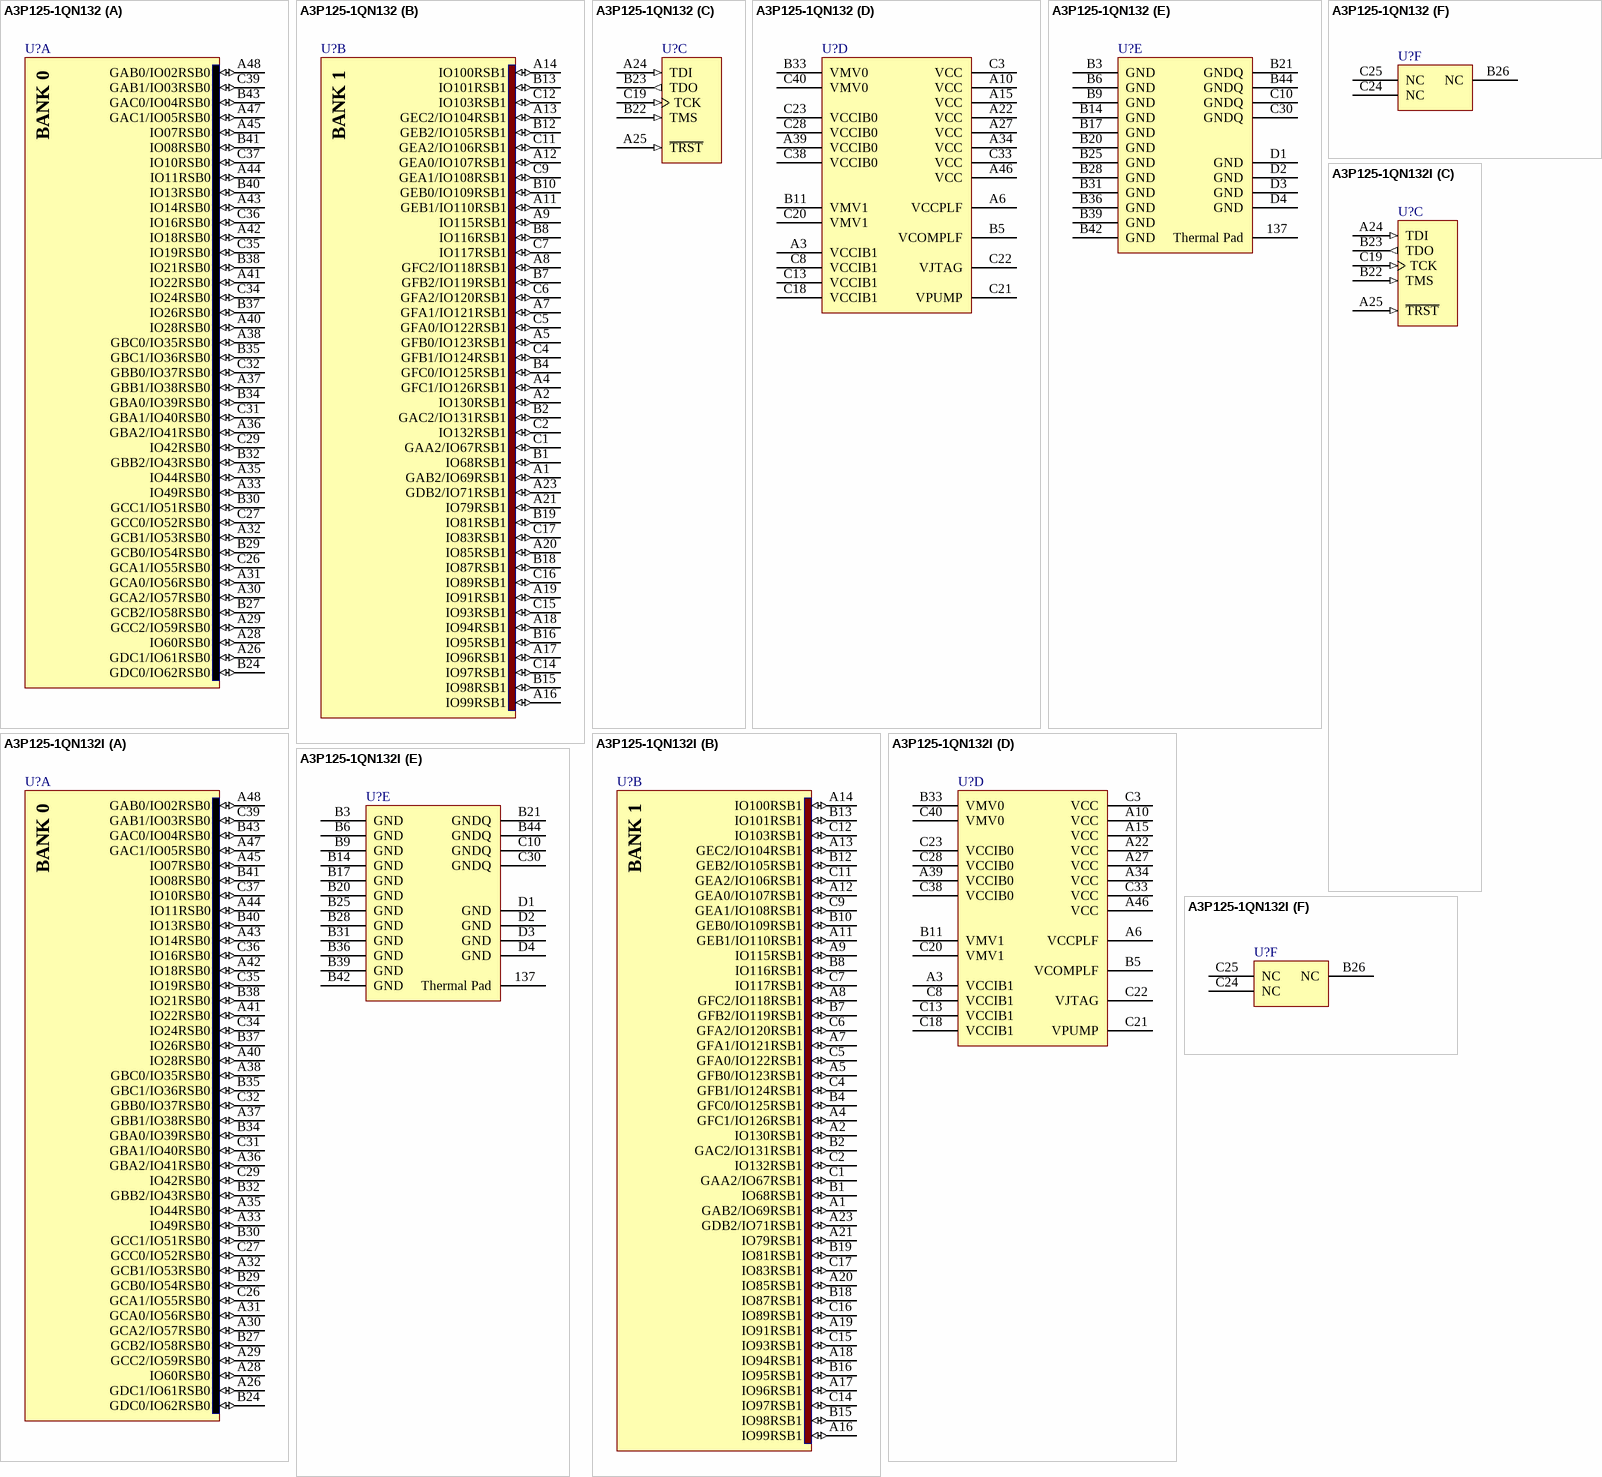
[diagram p31: symbols A3P125-1QN132 to A3P125-1QN132I]

## A3P125-1QN132
designator U?
ProASIC3 Flash Family FPGA, 84 User IOs, 125K System Gates, 36 Kbits RAM, 1 Kbit ProASIC3 Flash ROM, 1 PLL, 132-Pin QFN, Commercial Grade; Published: 30-Mar-2007; DatasheetVersion: v1.1, Feb-2009; PackageVersion: v11.0, Feb-2009; PackageReference: QN132; Publisher: Altium Limited; PackageDescription: 132-Pin Quad Flat Pack No-Leads (QN132); ComponentLink1Description: Manufacturer Link; ComponentLink1URL: http://www.actel.com/products/pa3/; ComponentLink2Description: Datasheet; ComponentLink2URL: http://www.actel.com/documents/PA3_DS.pdf; ComponentLink3Description: Packaging Specification; ComponentLink3URL: http://www.actel.com/documents/PckgMechDrwngs.pdf
footprint QN132 (QFN, 132-Leads, Body 8x8mm, Pitch 0.5mm)
3D model A3P125-QN132 (132-Pin Quad Flat Pack No-Leads (QN132))
signal-integrity model A3P125_QN132 (ProASIC3)
part A pins:  A26 GDC1/IO61RSB0 (io),  A28 IO60RSB0 (io),  A29 GCC2/IO59RSB0 (io),  A30 GCA2/IO57RSB0 (io),  A31 GCA0/IO56RSB0 (io),  A32 GCB1/IO53RSB0 (io),  A33 IO49RSB0 (io),  A35 IO44RSB0 (io),  A36 GBA2/IO41RSB0 (io),  A37 GBB1/IO38RSB0 (io),  A38 GBC0/IO35RSB0 (io),  A40 IO28RSB0 (io),  A41 IO22RSB0 (io),  A42 IO18RSB0 (io),  A43 IO14RSB0 (io),  A44 IO11RSB0 (io),  A45 IO07RSB0 (io),  A47 GAC1/IO05RSB0 (io),  A48 GAB0/IO02RSB0 (io),  B24 GDC0/IO62RSB0 (io),  B27 GCB2/IO58RSB0 (io),  B29 GCB0/IO54RSB0 (io),  B30 GCC1/IO51RSB0 (io),  B32 GBB2/IO43RSB0 (io),  B34 GBA0/IO39RSB0 (io),  B35 GBC1/IO36RSB0 (io),  B37 IO26RSB0 (io),  B38 IO21RSB0 (io),  B40 IO13RSB0 (io),  B41 IO08RSB0 (io),  B43 GAC0/IO04RSB0 (io),  C26 GCA1/IO55RSB0 (io),  C27 GCC0/IO52RSB0 (io),  C29 IO42RSB0 (io),  C31 GBA1/IO40RSB0 (io),  C32 GBB0/IO37RSB0 (io),  C34 IO24RSB0 (io),  C35 IO19RSB0 (io),  C36 IO16RSB0 (io),  C37 IO10RSB0 (io),  C39 GAB1/IO03RSB0 (io)
part B pins:  A1 GAB2/IO69RSB1 (io),  A2 IO130RSB1 (io),  A4 GFC1/IO126RSB1 (io),  A5 GFB0/IO123RSB1 (io),  A7 GFA1/IO121RSB1 (io),  A8 GFC2/IO118RSB1 (io),  A9 IO115RSB1 (io),  A11 GEB1/IO110RSB1 (io),  A12 GEA0/IO107RSB1 (io),  A13 GEC2/IO104RSB1 (io),  A14 IO100RSB1 (io),  A16 IO99RSB1 (io),  A17 IO96RSB1 (io),  A18 IO94RSB1 (io),  A19 IO91RSB1 (io),  A20 IO85RSB1 (io),  A21 IO79RSB1 (io),  A23 GDB2/IO71RSB1 (io),  B1 IO68RSB1 (io),  B2 GAC2/IO131RSB1 (io),  B4 GFC0/IO125RSB1 (io),  B7 GFB2/IO119RSB1 (io),  B8 IO116RSB1 (io),  B10 GEB0/IO109RSB1 (io),  B12 GEB2/IO105RSB1 (io),  B13 IO101RSB1 (io),  B15 IO98RSB1 (io),  B16 IO95RSB1 (io),  B18 IO87RSB1 (io),  B19 IO81RSB1 (io),  C1 GAA2/IO67RSB1 (io),  C2 IO132RSB1 (io),  C4 GFB1/IO124RSB1 (io),  C5 GFA0/IO122RSB1 (io),  C6 GFA2/IO120RSB1 (io),  C7 IO117RSB1 (io),  C9 GEA1/IO108RSB1 (io),  C11 GEA2/IO106RSB1 (io),  C12 IO103RSB1 (io),  C14 IO97RSB1 (io),  C15 IO93RSB1 (io),  C16 IO89RSB1 (io),  C17 IO83RSB1 (io)
part C pins:  A24 TDI (in),  A25 ~{TRST} (in),  B22 TMS (in),  B23 TDO (out),  C19 TCK (in)
part D pins:  A3 VCCIB1 (power),  A6 VCCPLF (power),  A10 VCC (power),  A15 VCC (power),  A22 VCC (power),  A27 VCC (power),  A34 VCC (power),  A39 VCCIB0 (power),  A46 VCC (power),  B5 VCOMPLF (power),  B33 VMV0 (power),  C3 VCC (power),  C8 VCCIB1 (power),  C13 VCCIB1 (power),  C18 VCCIB1 (power),  C20 VMV1 (power),  C21 VPUMP (power),  C22 VJTAG (power),  C23 VCCIB0 (power),  C28 VCCIB0 (power),  C33 VCC (power),  C38 VCCIB0 (power), B11 VMV1 (power), C40 VMV0 (power)
part E pins: 137 Thermal Pad (power),  B3 GND (power),  B6 GND (power),  B9 GND (power),  B14 GND (power),  B17 GND (power),  B20 GND (power),  B21 GNDQ (power),  B25 GND (power),  B28 GND (power),  B31 GND (power),  B36 GND (power),  B39 GND (power),  B42 GND (power),  B44 GNDQ (power),  C10 GNDQ (power),  C30 GNDQ (power),  D1 GND (power),  D2 GND (power),  D3 GND (power),  D4 GND (power)
part F pins: B26 NC, C24 NC, C25 NC
part A text: BANK 0
part B text: BANK 1

## A3P125-1QN132I
designator U?
ProASIC3 Flash Family FPGA, 84 User IOs, 125K System Gates, 36 Kbits RAM, 1 Kbit ProASIC3 Flash ROM, 1 PLL, 132-Pin QFN, Industrial Grade; Published: 30-Mar-2007; DatasheetVersion: v1.1, Feb-2009; PackageVersion: v11.0, Feb-2009; PackageReference: QN132; Publisher: Altium Limited; PackageDescription: 132-Pin Quad Flat Pack No-Leads (QN132); ComponentLink1Description: Manufacturer Link; ComponentLink1URL: http://www.actel.com/products/pa3/; ComponentLink2Description: Datasheet; ComponentLink2URL: http://www.actel.com/documents/PA3_DS.pdf; ComponentLink3Description: Packaging Specification; ComponentLink3URL: http://www.actel.com/documents/PckgMechDrwngs.pdf
footprint QN132 (QFN, 132-Leads, Body 8x8mm, Pitch 0.5mm)
3D model A3P125-QN132 (132-Pin Quad Flat Pack No-Leads (QN132))
signal-integrity model A3P125_QN132 (ProASIC3)
part A pins:  A26 GDC1/IO61RSB0 (io),  A28 IO60RSB0 (io),  A29 GCC2/IO59RSB0 (io),  A30 GCA2/IO57RSB0 (io),  A31 GCA0/IO56RSB0 (io),  A32 GCB1/IO53RSB0 (io),  A33 IO49RSB0 (io),  A35 IO44RSB0 (io),  A36 GBA2/IO41RSB0 (io),  A37 GBB1/IO38RSB0 (io),  A38 GBC0/IO35RSB0 (io),  A40 IO28RSB0 (io),  A41 IO22RSB0 (io),  A42 IO18RSB0 (io),  A43 IO14RSB0 (io),  A44 IO11RSB0 (io),  A45 IO07RSB0 (io),  A47 GAC1/IO05RSB0 (io),  A48 GAB0/IO02RSB0 (io),  B24 GDC0/IO62RSB0 (io),  B27 GCB2/IO58RSB0 (io),  B29 GCB0/IO54RSB0 (io),  B30 GCC1/IO51RSB0 (io),  B32 GBB2/IO43RSB0 (io),  B34 GBA0/IO39RSB0 (io),  B35 GBC1/IO36RSB0 (io),  B37 IO26RSB0 (io),  B38 IO21RSB0 (io),  B40 IO13RSB0 (io),  B41 IO08RSB0 (io),  B43 GAC0/IO04RSB0 (io),  C26 GCA1/IO55RSB0 (io),  C27 GCC0/IO52RSB0 (io),  C29 IO42RSB0 (io),  C31 GBA1/IO40RSB0 (io),  C32 GBB0/IO37RSB0 (io),  C34 IO24RSB0 (io),  C35 IO19RSB0 (io),  C36 IO16RSB0 (io),  C37 IO10RSB0 (io),  C39 GAB1/IO03RSB0 (io)
part B pins:  A1 GAB2/IO69RSB1 (io),  A2 IO130RSB1 (io),  A4 GFC1/IO126RSB1 (io),  A5 GFB0/IO123RSB1 (io),  A7 GFA1/IO121RSB1 (io),  A8 GFC2/IO118RSB1 (io),  A9 IO115RSB1 (io),  A11 GEB1/IO110RSB1 (io),  A12 GEA0/IO107RSB1 (io),  A13 GEC2/IO104RSB1 (io),  A14 IO100RSB1 (io),  A16 IO99RSB1 (io),  A17 IO96RSB1 (io),  A18 IO94RSB1 (io),  A19 IO91RSB1 (io),  A20 IO85RSB1 (io),  A21 IO79RSB1 (io),  A23 GDB2/IO71RSB1 (io),  B1 IO68RSB1 (io),  B2 GAC2/IO131RSB1 (io),  B4 GFC0/IO125RSB1 (io),  B7 GFB2/IO119RSB1 (io),  B8 IO116RSB1 (io),  B10 GEB0/IO109RSB1 (io),  B12 GEB2/IO105RSB1 (io),  B13 IO101RSB1 (io),  B15 IO98RSB1 (io),  B16 IO95RSB1 (io),  B18 IO87RSB1 (io),  B19 IO81RSB1 (io),  C1 GAA2/IO67RSB1 (io),  C2 IO132RSB1 (io),  C4 GFB1/IO124RSB1 (io),  C5 GFA0/IO122RSB1 (io),  C6 GFA2/IO120RSB1 (io),  C7 IO117RSB1 (io),  C9 GEA1/IO108RSB1 (io),  C11 GEA2/IO106RSB1 (io),  C12 IO103RSB1 (io),  C14 IO97RSB1 (io),  C15 IO93RSB1 (io),  C16 IO89RSB1 (io),  C17 IO83RSB1 (io)
part C pins:  A24 TDI (in),  A25 ~{TRST} (in),  B22 TMS (in),  B23 TDO (out),  C19 TCK (in)
part D pins:  A3 VCCIB1 (power),  A6 VCCPLF (power),  A10 VCC (power),  A15 VCC (power),  A22 VCC (power),  A27 VCC (power),  A34 VCC (power),  A39 VCCIB0 (power),  A46 VCC (power),  B5 VCOMPLF (power),  B33 VMV0 (power),  C3 VCC (power),  C8 VCCIB1 (power),  C13 VCCIB1 (power),  C18 VCCIB1 (power),  C20 VMV1 (power),  C21 VPUMP (power),  C22 VJTAG (power),  C23 VCCIB0 (power),  C28 VCCIB0 (power),  C33 VCC (power),  C38 VCCIB0 (power), B11 VMV1 (power), C40 VMV0 (power)
part E pins: 137 Thermal Pad (power),  B3 GND (power),  B6 GND (power),  B9 GND (power),  B14 GND (power),  B17 GND (power),  B20 GND (power),  B21 GNDQ (power),  B25 GND (power),  B28 GND (power),  B31 GND (power),  B36 GND (power),  B39 GND (power),  B42 GND (power),  B44 GNDQ (power),  C10 GNDQ (power),  C30 GNDQ (power),  D1 GND (power),  D2 GND (power),  D3 GND (power),  D4 GND (power)
part F pins: B26 NC, C24 NC, C25 NC
part A text: BANK 0
part B text: BANK 1

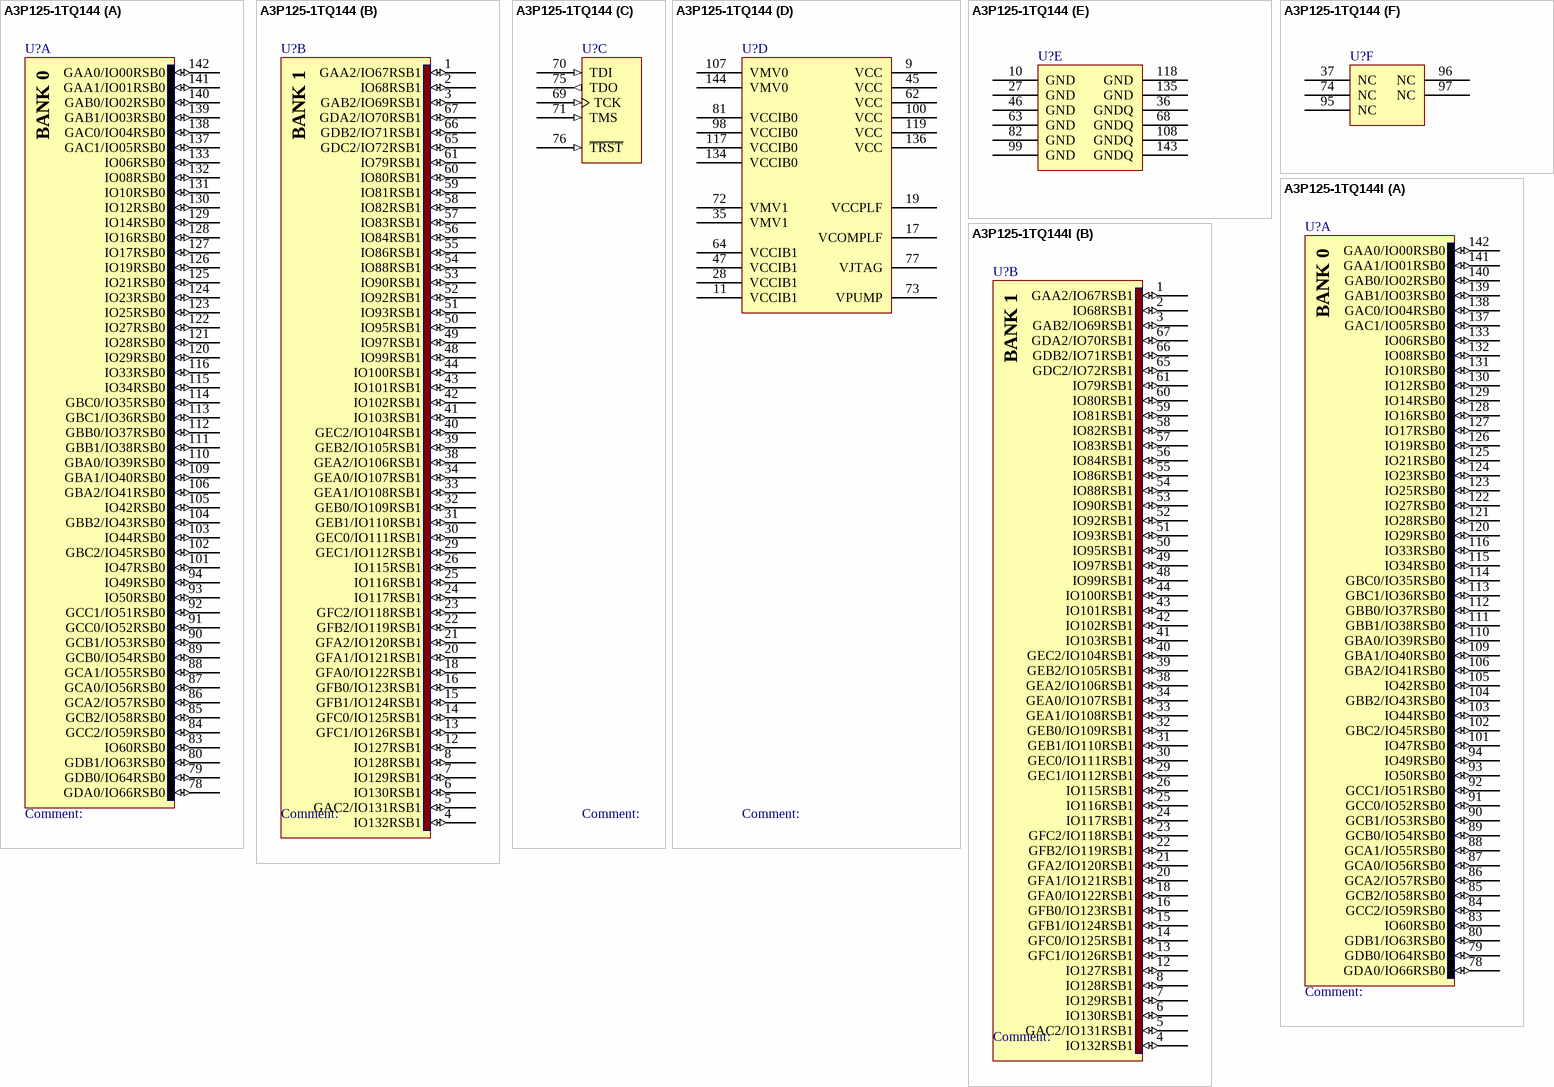
[diagram p32: symbols A3P125-1TQ144 to A3P125-1TQ144I]

## A3P125-1TQ144
designator U?
ProASIC3 Flash Family FPGA, 100 User IOs, 125K System Gates, 36 Kbits RAM, 1 Kbit Flash ROM, 1 PLL, 144-Pin TQFP, Commercial Grade; Published: 4-Mar-2005; LatestRevisionDate: 13-Apr-2006; LatestRevisionNote: IPC-7351 Footprint Added.; DatasheetVersion: v1.1, Feb-2009; PackageVersion: v11.0, Feb-2009; PackageReference: TQ144; Publisher: Altium Limited; PackageDescription: 144-Pin Plastic Quad Flat Pack (TQ144); Code_JEDEC: MS-026-BFB; ComponentLink1Description: Manufacturer Link; ComponentLink1URL: http://www.actel.com/products/pa3/; ComponentLink2Description: Datasheet; ComponentLink2URL: http://www.actel.com/documents/PA3_DS.pdf; ComponentLink3Description: Packaging Specification; ComponentLink3URL: http://www.actel.com/documents/PckgMechDrwngs.pdf
footprint TQ144_N (Thin QFP, 144-Leads, Body 20x20mm, Pitch 0.5mm, IPC Medium Density)
footprint TQ144_L (Thin QFP, 144-Leads, Body 20x20mm, Pitch 0.5mm, IPC High Density)
footprint TQ144_M (Thin QFP, 144-Leads, Body 20x20mm, Pitch 0.5mm, IPC Low Density)
3D model A3P125-TQ144 (144-Pin Plastic Quad Flat Pack (TQ144))
signal-integrity model A3P125_TQ144 (ProASIC3)
part A pins: 78 GDA0/IO66RSB0 (io), 79 GDB0/IO64RSB0 (io), 80 GDB1/IO63RSB0 (io), 83 IO60RSB0 (io), 84 GCC2/IO59RSB0 (io), 85 GCB2/IO58RSB0 (io), 86 GCA2/IO57RSB0 (io), 87 GCA0/IO56RSB0 (io), 88 GCA1/IO55RSB0 (io), 89 GCB0/IO54RSB0 (io), 90 GCB1/IO53RSB0 (io), 91 GCC0/IO52RSB0 (io), 92 GCC1/IO51RSB0 (io), 93 IO50RSB0 (io), 94 IO49RSB0 (io), 101 IO47RSB0 (io), 102 GBC2/IO45RSB0 (io), 103 IO44RSB0 (io), 104 GBB2/IO43RSB0 (io), 105 IO42RSB0 (io), 106 GBA2/IO41RSB0 (io), 109 GBA1/IO40RSB0 (io), 110 GBA0/IO39RSB0 (io), 111 GBB1/IO38RSB0 (io), 112 GBB0/IO37RSB0 (io), 113 GBC1/IO36RSB0 (io), 114 GBC0/IO35RSB0 (io), 115 IO34RSB0 (io), 116 IO33RSB0 (io), 120 IO29RSB0 (io), 121 IO28RSB0 (io), 122 IO27RSB0 (io), 123 IO25RSB0 (io), 124 IO23RSB0 (io), 125 IO21RSB0 (io), 126 IO19RSB0 (io), 127 IO17RSB0 (io), 128 IO16RSB0 (io), 129 IO14RSB0 (io), 130 IO12RSB0 (io), 131 IO10RSB0 (io), 132 IO08RSB0 (io), 133 IO06RSB0 (io), 137 GAC1/IO05RSB0 (io), 138 GAC0/IO04RSB0 (io), 139 GAB1/IO03RSB0 (io), 140 GAB0/IO02RSB0 (io), 141 GAA1/IO01RSB0 (io), 142 GAA0/IO00RSB0 (io)
part B pins: 1 GAA2/IO67RSB1 (io), 2 IO68RSB1 (io), 3 GAB2/IO69RSB1 (io), 4 IO132RSB1 (io), 5 GAC2/IO131RSB1 (io), 6 IO130RSB1 (io), 7 IO129RSB1 (io), 8 IO128RSB1 (io), 12 IO127RSB1 (io), 13 GFC1/IO126RSB1 (io), 14 GFC0/IO125RSB1 (io), 15 GFB1/IO124RSB1 (io), 16 GFB0/IO123RSB1 (io), 18 GFA0/IO122RSB1 (io), 20 GFA1/IO121RSB1 (io), 21 GFA2/IO120RSB1 (io), 22 GFB2/IO119RSB1 (io), 23 GFC2/IO118RSB1 (io), 24 IO117RSB1 (io), 25 IO116RSB1 (io), 26 IO115RSB1 (io), 29 GEC1/IO112RSB1 (io), 30 GEC0/IO111RSB1 (io), 31 GEB1/IO110RSB1 (io), 32 GEB0/IO109RSB1 (io), 33 GEA1/IO108RSB1 (io), 34 GEA0/IO107RSB1 (io), 38 GEA2/IO106RSB1 (io), 39 GEB2/IO105RSB1 (io), 40 GEC2/IO104RSB1 (io), 41 IO103RSB1 (io), 42 IO102RSB1 (io), 43 IO101RSB1 (io), 44 IO100RSB1 (io), 48 IO99RSB1 (io), 49 IO97RSB1 (io), 50 IO95RSB1 (io), 51 IO93RSB1 (io), 52 IO92RSB1 (io), 53 IO90RSB1 (io), 54 IO88RSB1 (io), 55 IO86RSB1 (io), 56 IO84RSB1 (io), 57 IO83RSB1 (io), 58 IO82RSB1 (io), 59 IO81RSB1 (io), 60 IO80RSB1 (io), 61 IO79RSB1 (io), 65 GDC2/IO72RSB1 (io), 66 GDB2/IO71RSB1 (io), 67 GDA2/IO70RSB1 (io)
part C pins: 69 TCK (in), 70 TDI (in), 71 TMS (in), 75 TDO (out), 76 ~{TRST} (in)
part D pins: 9 VCC (power), 11 VCCIB1 (power), 17 VCOMPLF (power), 19 VCCPLF (power), 28 VCCIB1 (power), 35 VMV1 (power), 45 VCC (power), 47 VCCIB1 (power), 62 VCC (power), 64 VCCIB1 (power), 72 VMV1 (power), 73 VPUMP (power), 77 VJTAG (power), 81 VCCIB0 (power), 98 VCCIB0 (power), 100 VCC (power), 107 VMV0 (power), 117 VCCIB0 (power), 119 VCC (power), 134 VCCIB0 (power), 136 VCC (power), 144 VMV0 (power)
part E pins: 10 GND (power), 27 GND (power), 36 GNDQ (power), 46 GND (power), 63 GND (power), 68 GNDQ (power), 82 GND (power), 99 GND (power), 108 GNDQ (power), 118 GND (power), 135 GND (power), 143 GNDQ (power)
part F pins: 37 NC, 74 NC, 95 NC, 96 NC, 97 NC
part A text: BANK 0
part B text: BANK 1

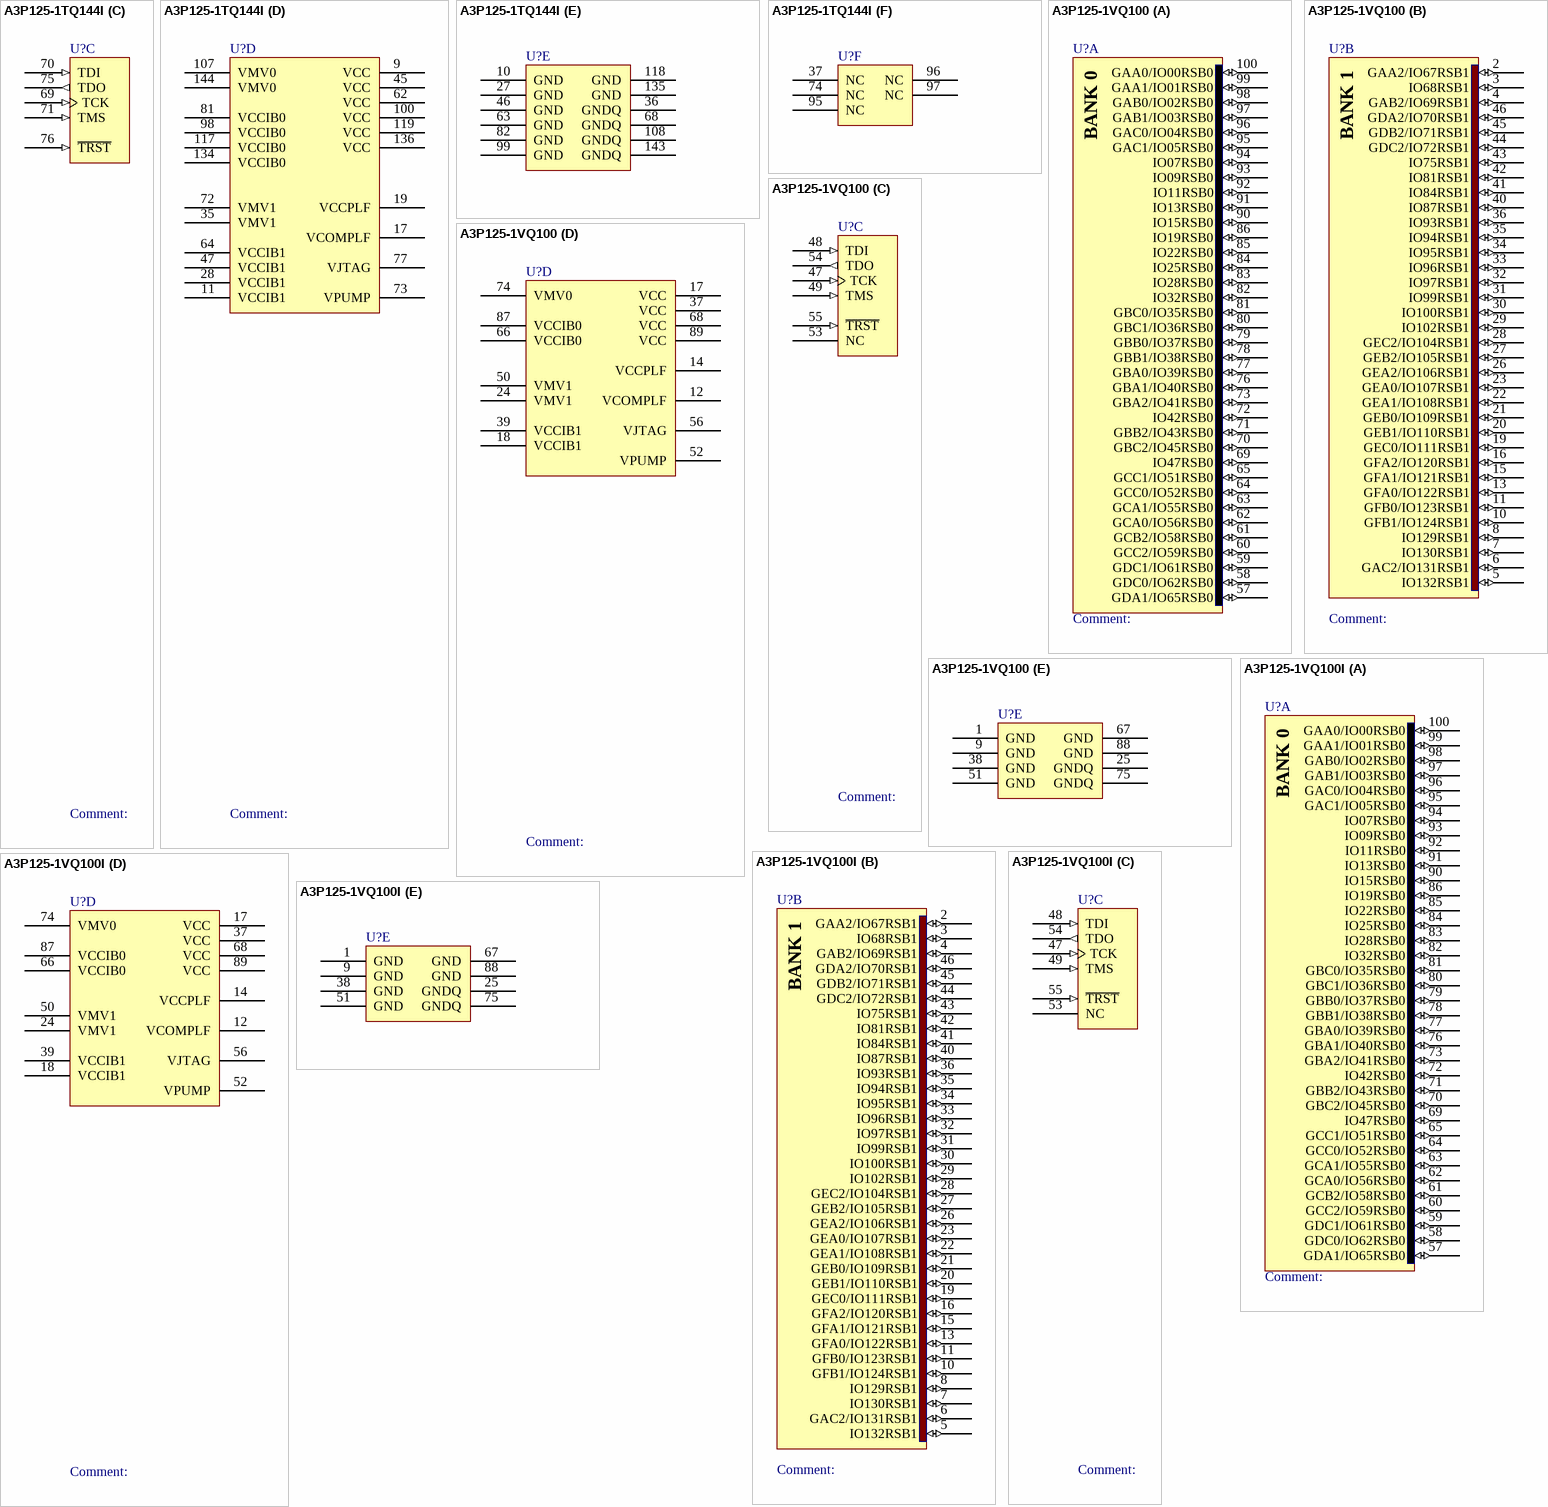
[diagram p33: symbols A3P125-1TQ144I to A3P125-1VQ100I]

## A3P125-1TQ144I
designator U?
ProASIC3 Flash Family FPGA, 100 User IOs, 125K System Gates, 36 Kbits RAM, 1 Kbit Flash ROM, 1 PLL, 144-Pin TQFP, Industrial Grade; Published: 4-Mar-2005; LatestRevisionDate: 13-Apr-2006; LatestRevisionNote: IPC-7351 Footprint Added.; DatasheetVersion: v1.1, Feb-2009; PackageVersion: v11.0, Feb-2009; PackageReference: TQ144; Publisher: Altium Limited; PackageDescription: 144-Pin Plastic Quad Flat Pack (TQ144); Code_JEDEC: MS-026-BFB; ComponentLink1Description: Manufacturer Link; ComponentLink1URL: http://www.actel.com/products/pa3/; ComponentLink2Description: Datasheet; ComponentLink2URL: http://www.actel.com/documents/PA3_DS.pdf; ComponentLink3Description: Packaging Specification; ComponentLink3URL: http://www.actel.com/documents/PckgMechDrwngs.pdf
footprint TQ144_N (Thin QFP, 144-Leads, Body 20x20mm, Pitch 0.5mm, IPC Medium Density)
footprint TQ144_L (Thin QFP, 144-Leads, Body 20x20mm, Pitch 0.5mm, IPC High Density)
footprint TQ144_M (Thin QFP, 144-Leads, Body 20x20mm, Pitch 0.5mm, IPC Low Density)
3D model A3P125-TQ144 (144-Pin Plastic Quad Flat Pack (TQ144))
signal-integrity model A3P125_TQ144 (ProASIC3)
part A pins: 78 GDA0/IO66RSB0 (io), 79 GDB0/IO64RSB0 (io), 80 GDB1/IO63RSB0 (io), 83 IO60RSB0 (io), 84 GCC2/IO59RSB0 (io), 85 GCB2/IO58RSB0 (io), 86 GCA2/IO57RSB0 (io), 87 GCA0/IO56RSB0 (io), 88 GCA1/IO55RSB0 (io), 89 GCB0/IO54RSB0 (io), 90 GCB1/IO53RSB0 (io), 91 GCC0/IO52RSB0 (io), 92 GCC1/IO51RSB0 (io), 93 IO50RSB0 (io), 94 IO49RSB0 (io), 101 IO47RSB0 (io), 102 GBC2/IO45RSB0 (io), 103 IO44RSB0 (io), 104 GBB2/IO43RSB0 (io), 105 IO42RSB0 (io), 106 GBA2/IO41RSB0 (io), 109 GBA1/IO40RSB0 (io), 110 GBA0/IO39RSB0 (io), 111 GBB1/IO38RSB0 (io), 112 GBB0/IO37RSB0 (io), 113 GBC1/IO36RSB0 (io), 114 GBC0/IO35RSB0 (io), 115 IO34RSB0 (io), 116 IO33RSB0 (io), 120 IO29RSB0 (io), 121 IO28RSB0 (io), 122 IO27RSB0 (io), 123 IO25RSB0 (io), 124 IO23RSB0 (io), 125 IO21RSB0 (io), 126 IO19RSB0 (io), 127 IO17RSB0 (io), 128 IO16RSB0 (io), 129 IO14RSB0 (io), 130 IO12RSB0 (io), 131 IO10RSB0 (io), 132 IO08RSB0 (io), 133 IO06RSB0 (io), 137 GAC1/IO05RSB0 (io), 138 GAC0/IO04RSB0 (io), 139 GAB1/IO03RSB0 (io), 140 GAB0/IO02RSB0 (io), 141 GAA1/IO01RSB0 (io), 142 GAA0/IO00RSB0 (io)
part B pins: 1 GAA2/IO67RSB1 (io), 2 IO68RSB1 (io), 3 GAB2/IO69RSB1 (io), 4 IO132RSB1 (io), 5 GAC2/IO131RSB1 (io), 6 IO130RSB1 (io), 7 IO129RSB1 (io), 8 IO128RSB1 (io), 12 IO127RSB1 (io), 13 GFC1/IO126RSB1 (io), 14 GFC0/IO125RSB1 (io), 15 GFB1/IO124RSB1 (io), 16 GFB0/IO123RSB1 (io), 18 GFA0/IO122RSB1 (io), 20 GFA1/IO121RSB1 (io), 21 GFA2/IO120RSB1 (io), 22 GFB2/IO119RSB1 (io), 23 GFC2/IO118RSB1 (io), 24 IO117RSB1 (io), 25 IO116RSB1 (io), 26 IO115RSB1 (io), 29 GEC1/IO112RSB1 (io), 30 GEC0/IO111RSB1 (io), 31 GEB1/IO110RSB1 (io), 32 GEB0/IO109RSB1 (io), 33 GEA1/IO108RSB1 (io), 34 GEA0/IO107RSB1 (io), 38 GEA2/IO106RSB1 (io), 39 GEB2/IO105RSB1 (io), 40 GEC2/IO104RSB1 (io), 41 IO103RSB1 (io), 42 IO102RSB1 (io), 43 IO101RSB1 (io), 44 IO100RSB1 (io), 48 IO99RSB1 (io), 49 IO97RSB1 (io), 50 IO95RSB1 (io), 51 IO93RSB1 (io), 52 IO92RSB1 (io), 53 IO90RSB1 (io), 54 IO88RSB1 (io), 55 IO86RSB1 (io), 56 IO84RSB1 (io), 57 IO83RSB1 (io), 58 IO82RSB1 (io), 59 IO81RSB1 (io), 60 IO80RSB1 (io), 61 IO79RSB1 (io), 65 GDC2/IO72RSB1 (io), 66 GDB2/IO71RSB1 (io), 67 GDA2/IO70RSB1 (io)
part C pins: 69 TCK (in), 70 TDI (in), 71 TMS (in), 75 TDO (out), 76 ~{TRST} (in)
part D pins: 9 VCC (power), 11 VCCIB1 (power), 17 VCOMPLF (power), 19 VCCPLF (power), 28 VCCIB1 (power), 35 VMV1 (power), 45 VCC (power), 47 VCCIB1 (power), 62 VCC (power), 64 VCCIB1 (power), 72 VMV1 (power), 73 VPUMP (power), 77 VJTAG (power), 81 VCCIB0 (power), 98 VCCIB0 (power), 100 VCC (power), 107 VMV0 (power), 117 VCCIB0 (power), 119 VCC (power), 134 VCCIB0 (power), 136 VCC (power), 144 VMV0 (power)
part E pins: 10 GND (power), 27 GND (power), 36 GNDQ (power), 46 GND (power), 63 GND (power), 68 GNDQ (power), 82 GND (power), 99 GND (power), 108 GNDQ (power), 118 GND (power), 135 GND (power), 143 GNDQ (power)
part F pins: 37 NC, 74 NC, 95 NC, 96 NC, 97 NC
part A text: BANK 0
part B text: BANK 1

## A3P125-1VQ100
designator U?
ProASIC3 Flash Family FPGA, 71 User IOs, 125K System Gates, 36 Kbits RAM, 1 Kbit Flash ROM, 1 PLL, 100-Pin VQFP, Commercial Grade; Published: 4-Mar-2005; LatestRevisionDate: 13-Apr-2006; LatestRevisionNote: IPC-7351 Footprint Added.; DatasheetVersion: v1.1, Feb-2009; PackageVersion: v11.0, Feb-2009; PackageReference: VQ100; Publisher: Altium Limited; PackageDescription: 100-Pin Plastic Quad Flat Pack (VQ100); Code_JEDEC: MS-026-AED; ComponentLink1Description: Manufacturer Link; ComponentLink1URL: http://www.actel.com/products/pa3/; ComponentLink2Description: Datasheet; ComponentLink2URL: http://www.actel.com/documents/PA3_DS.pdf; ComponentLink3Description: Packaging Specification; ComponentLink3URL: http://www.actel.com/documents/PckgMechDrwngs.pdf
footprint VQ100_N (Thin QFP, 100-Leads, Body 14x14mm, Pitch 0.5mm, IPC Medium Density)
footprint VQ100_L (Thin QFP, 100-Leads, Body 14x14mm, Pitch 0.5mm, IPC High Density)
footprint VQ100_M (Thin QFP, 100-Leads, Body 14x14mm, Pitch 0.5mm, IPC Low Density)
3D model A3P125-VQ100 (100-Pin Plastic Quad Flat Pack (VQ100))
signal-integrity model A3P125_VQ100 (ProASIC3)
part A pins: 57 GDA1/IO65RSB0 (io), 58 GDC0/IO62RSB0 (io), 59 GDC1/IO61RSB0 (io), 60 GCC2/IO59RSB0 (io), 61 GCB2/IO58RSB0 (io), 62 GCA0/IO56RSB0 (io), 63 GCA1/IO55RSB0 (io), 64 GCC0/IO52RSB0 (io), 65 GCC1/IO51RSB0 (io), 69 IO47RSB0 (io), 70 GBC2/IO45RSB0 (io), 71 GBB2/IO43RSB0 (io), 72 IO42RSB0 (io), 73 GBA2/IO41RSB0 (io), 76 GBA1/IO40RSB0 (io), 77 GBA0/IO39RSB0 (io), 78 GBB1/IO38RSB0 (io), 79 GBB0/IO37RSB0 (io), 80 GBC1/IO36RSB0 (io), 81 GBC0/IO35RSB0 (io), 82 IO32RSB0 (io), 83 IO28RSB0 (io), 84 IO25RSB0 (io), 85 IO22RSB0 (io), 86 IO19RSB0 (io), 90 IO15RSB0 (io), 91 IO13RSB0 (io), 92 IO11RSB0 (io), 93 IO09RSB0 (io), 94 IO07RSB0 (io), 95 GAC1/IO05RSB0 (io), 96 GAC0/IO04RSB0 (io), 97 GAB1/IO03RSB0 (io), 98 GAB0/IO02RSB0 (io), 99 GAA1/IO01RSB0 (io), 100 GAA0/IO00RSB0 (io)
part B pins: 2 GAA2/IO67RSB1 (io), 3 IO68RSB1 (io), 4 GAB2/IO69RSB1 (io), 5 IO132RSB1 (io), 6 GAC2/IO131RSB1 (io), 7 IO130RSB1 (io), 8 IO129RSB1 (io), 10 GFB1/IO124RSB1 (io), 11 GFB0/IO123RSB1 (io), 13 GFA0/IO122RSB1 (io), 15 GFA1/IO121RSB1 (io), 16 GFA2/IO120RSB1 (io), 19 GEC0/IO111RSB1 (io), 20 GEB1/IO110RSB1 (io), 21 GEB0/IO109RSB1 (io), 22 GEA1/IO108RSB1 (io), 23 GEA0/IO107RSB1 (io), 26 GEA2/IO106RSB1 (io), 27 GEB2/IO105RSB1 (io), 28 GEC2/IO104RSB1 (io), 29 IO102RSB1 (io), 30 IO100RSB1 (io), 31 IO99RSB1 (io), 32 IO97RSB1 (io), 33 IO96RSB1 (io), 34 IO95RSB1 (io), 35 IO94RSB1 (io), 36 IO93RSB1 (io), 40 IO87RSB1 (io), 41 IO84RSB1 (io), 42 IO81RSB1 (io), 43 IO75RSB1 (io), 44 GDC2/IO72RSB1 (io), 45 GDB2/IO71RSB1 (io), 46 GDA2/IO70RSB1 (io)
part C pins: 47 TCK (in), 48 TDI (in), 49 TMS (in), 53 NC, 54 TDO (out), 55 ~{TRST} (in)
part D pins: 12 VCOMPLF (power), 14 VCCPLF (power), 17 VCC (power), 18 VCCIB1 (power), 24 VMV1 (power), 37 VCC (power), 39 VCCIB1 (power), 50 VMV1 (power), 52 VPUMP (power), 56 VJTAG (power), 66 VCCIB0 (power), 68 VCC (power), 74 VMV0 (power), 87 VCCIB0 (power), 89 VCC (power)
part E pins: 1 GND (power), 9 GND (power), 25 GNDQ (power), 38 GND (power), 51 GND (power), 67 GND (power), 75 GNDQ (power), 88 GND (power)
part A text: BANK 0
part B text: BANK 1